# Altium schematic symbol library fszhang.SchLib: 253 symbols (part 2 of 3)
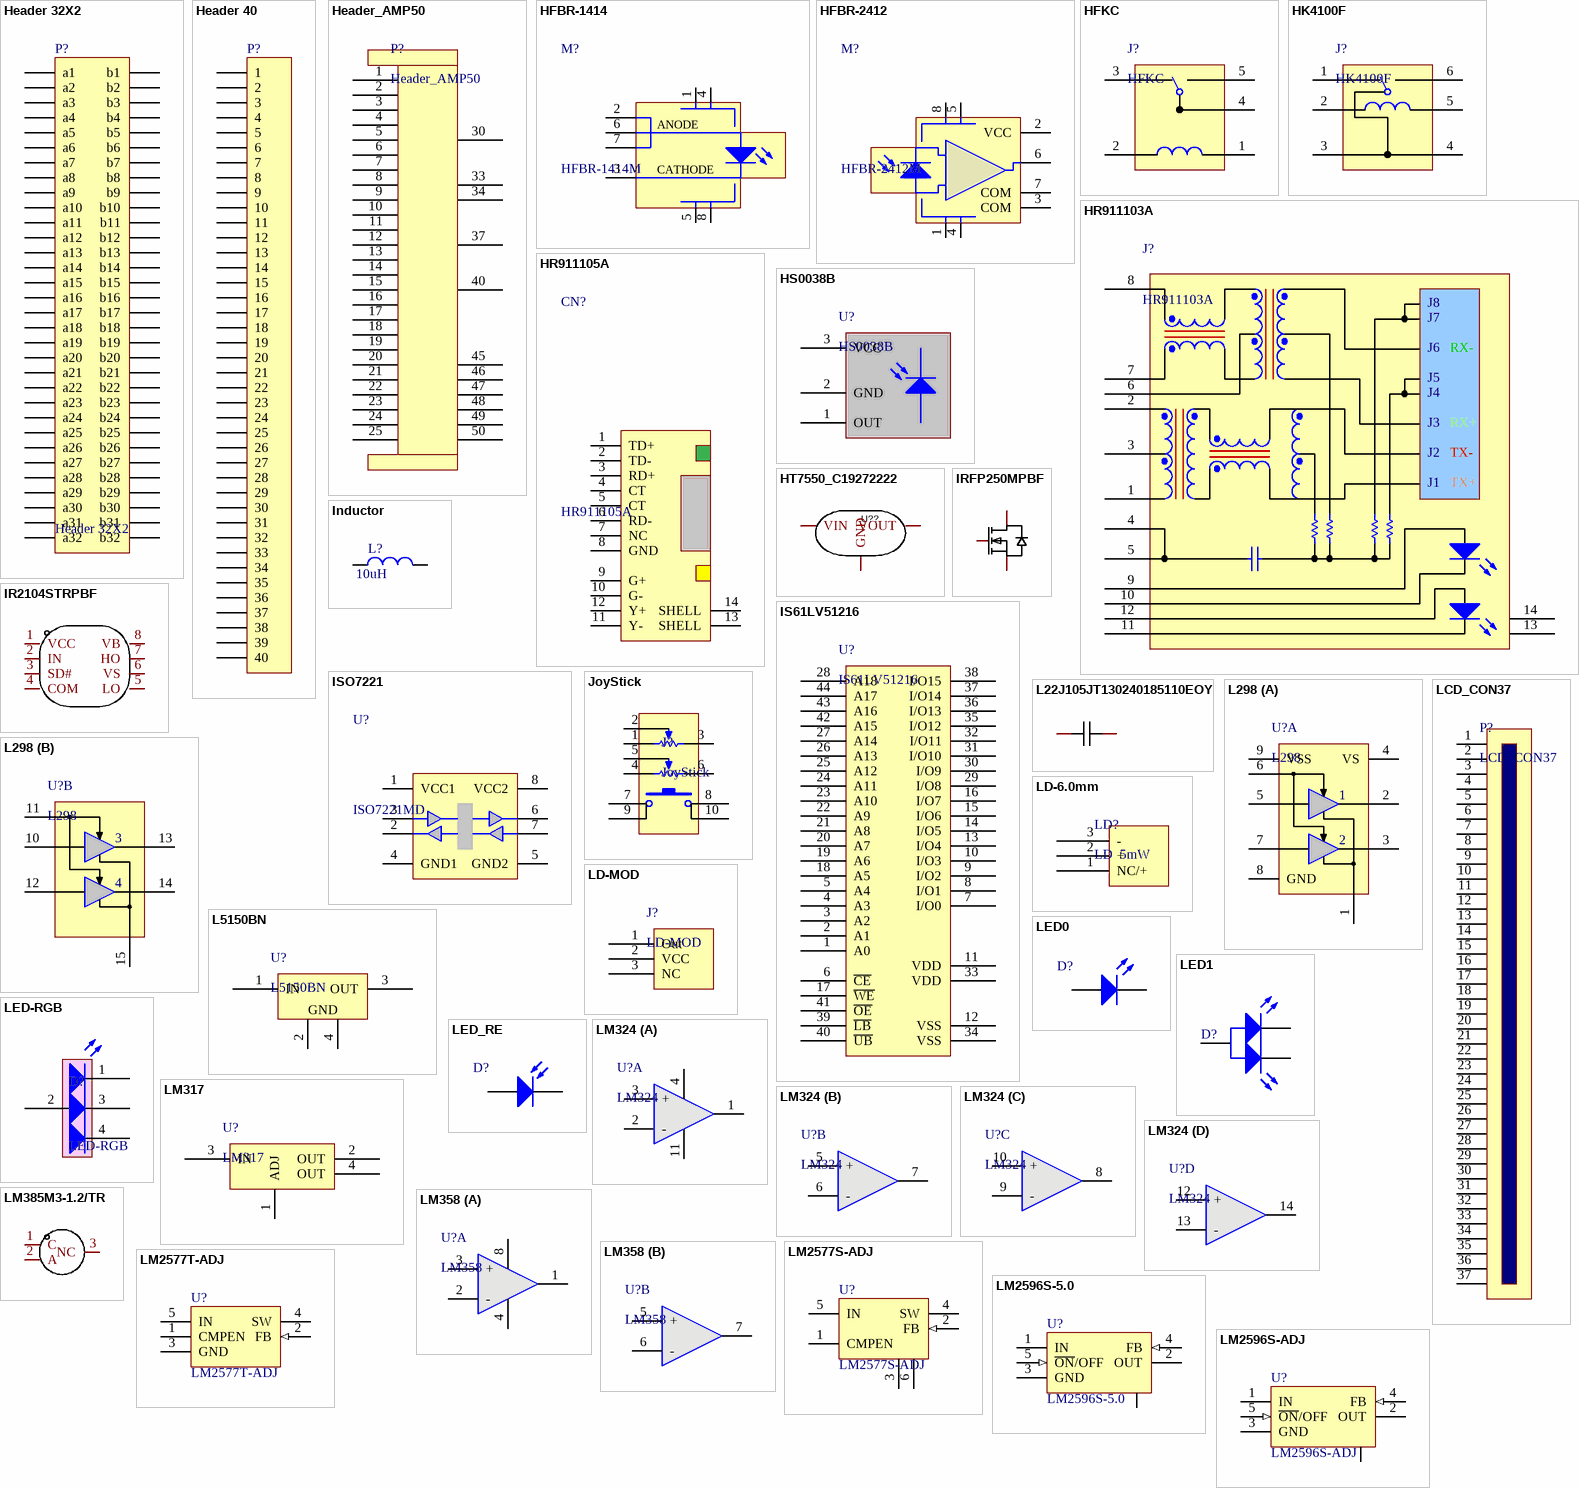
[diagram p14: symbols Header 32X2 to LM2596S-ADJ]

## IR2104STRPBF
designator U??  (value not drawn)
Manufacturer: Infineon(英飞凌); Add into BOM: yes; Name: IR2104STRPBF; Symbol: IR2104STRPBF; Device: IR2104STRPBF; LCSC Part Name: IR2104STRPBF; Supplier Part: C2960; Manufacturer Part: IR2104STRPBF; Supplier Footprint: SOIC-8-150mil; JLCPCB Part Class: Extended Part; Datasheet: https://atta.szlcsc.com/upload/public/pdf/source/20140906/1457707236579.pdf; Supplier: LCSC; Convert to PCB: yes
footprint SOIC-8_L4.9-W3.9-P1.27-LS6.0-BL
3D model SOIC-8_L4.9-W3.9-H1.7-LS6.0-P1.27
pins: 1 VCC, 2 IN, 3 SD#, 4 COM, 5 LO, 6 VS, 7 HO, 8 VB

## IRFP250MPBF
designator Q??  (value not drawn)
Manufacturer: Infineon(英飞凌); Add into BOM: yes; Type: N沟道; Drain Source Voltage (Vdss): 200V; Continuous Drain Current (Id): 30A; Power Dissipation (Pd): 214W; Drain Source On Resistance (RDS(on)@Vgs,Id): 75mΩ@10V,18A; Gate Threshold Voltage (Vgs(th)@Id): 4V@250uA; Name: IRFP250MPBF; Symbol: IRFP250MPBF; Device: IRFP250MPBF; LCSC Part Name: N沟道 200V 30A; Supplier Part: C2676; Manufacturer Part: IRFP250MPBF; Supplier Footprint: TO-247AC-3; JLCPCB Part Class: Extended Part; Datasheet: https://atta.szlcsc.com/upload/public/pdf/source/20140822/1457707234074.pdf; Supplier: LCSC; Convert to PCB: yes
footprint TO-247AC-3_L15.8-W5.0-P5.46-L
3D model TO-247AC-3_L15.8-W5.0-H20.5-P5.46
pins: 1 G, 2 D, 3 S

## IS61LV51216
designator U?
静态RAM
footprint TSOP-44N (TSOP, 44-Leads, Body 18.2x10.0mm (max), Pitch 0.80mm, IPC Medium Density)
pins: 1 A0, 2 A1, 3 A2, 4 A3, 5 A4, 6 ~{CE}, 7 I/O0, 8 I/O1, 9 I/O2, 10 I/O3, 11 VDD, 12 VSS, 13 I/O4, 14 I/O5, 15 I/O6, 16 I/O7, 17 ~{WE}, 18 A5, 19 A6, 20 A7, 21 A8, 22 A9, 23 A10, 24 A11, 25 A12, 26 A13, 27 A14, 28 A18, 29 I/O8, 30 I/O9, 31 I/O10, 32 I/O11, 33 VDD, 34 VSS, 35 I/O12, 36 I/O13, 37 I/O14, 38 I/O15, 39 ~{LB}, 40 ~{UB}, 41 ~{OE}, 42 A15, 43 A16, 44 A17

## ISO7221
designator U?, comment ISO7221MD
隔离芯片
footprint NSO8_N (SOIC-max660)
pins: 1 VCC1, 2 OutA, 3 B, 4 GND1, 5 GND2, 6 OutB, 7 InA, 8 VCC2

## JoyStick
designator J?
模拟摇杆
footprint JoyStick (模拟摇杆)
pins: 1 BOT, 2 TAP, 3 TOP, 4 BOT, 5 TAP, 6 TOP, 7, 8, 9, 10

## L22J105JT130240185110EOY
designator U??  (value not drawn)
电容; Manufacturer: STE(松田); Name: 1uF; Add into BOM: yes; Value: 1uF; Tolerance: ±5%; Voltage Rated: 630V; Dielectric Material: 金属化聚酯; Symbol: L22J105JT130240185110EOY; Device: L22J105JT130240185110EOY; LCSC Part Name: 1uF ±5% 630V; Supplier Part: C2893996; Manufacturer Part: L22J105JT130240185110EOY; Supplier Footprint: 插件,P=22.5mm; JLCPCB Part Class: Extended Part; Datasheet: https://atta.szlcsc.com/upload/public/pdf/source/20210914/9577881C568D4F76FB11E9DE1425BA7C.pdf; Supplier: LCSC; Convert to PCB: yes; Operating Temperature: -40℃~+125℃
footprint CAP-TH_L25.0-W12.5-P22.50-D0.8
3D model CAP-TH_L25.0-W12.5-P22.50-D0.8
pins: 1, 2

## L298
designator U?
ST双电桥
footprint Multiwatt15-V
part A pins: 1 SENSEA, 2 OUT1, 3 OUT2, 4 VS, 5 IN1, 6 ENA, 7 IN2, 8 GND, 9 VSS
part B pins: 10 IN3, 11 ENB, 12 IN4, 13 OUT3, 14 OUT4, 15 SENSEB

## L5150BN
designator U?
5V稳压芯片
footprint SOT-223 (ASM1117 -3.3V)
pins: 1 IN, 2 GND, 3 OUT, 4 GND

## LCD_CON37
designator P?
LCD接口
footprint HDR37X1_F
pins: 1, 2, 3, 4, 5, 6, 7, 8, 9, 10, 11, 12, 13, 14, 15, 16, 17, 18, 19, 20, 21, 22, 23, 24, 25, 26, 27, 28, 29, 30, 31, 32, 33, 34, 35, 36, 37

## LD-6.0mm
designator LD?, comment LD  5mW
5MW激光
footprint LD-6.0 (激光直径6.0mm)
pins: 1 NC/+ (power), 2 + (power), 3 - (power)

## LD-MOD
designator J?
激光调制管
footprint LD-MOD (激光调制管)
pins: 1 Out (power), 2 VCC (power), 3 NC (power)

## LED0
designator D?  (value not drawn)
发光二极管; Published: 8-Jun-2000; LatestRevisionDate: 08-Jul-2005; LatestRevisionNote: Mech Layer 1 removed.; PackageReference: LED-0; Publisher: Altium Limited
footprint LED_A1 (直径3MM发?)
footprint LED_0805 (贴片二?)
footprint LED_A2 (直径3MM?)
footprint LED-3528 (贴片二极管)
pins: 1 A, 2 K

## LED1
designator D?  (value not drawn)
双色LED; Published: 8-Jun-2000; LatestRevisionDate: 08-Jul-2005; LatestRevisionNote: Mech Layer 1 removed.; PackageReference: LED-0; Publisher: Altium Limited
footprint LED_A3 (直径3MM二极管)
pins: 1 K1, 2 A, 3 K2

## LED-RGB
designator D?
三基色LED; Published: 8-Jun-2000; LatestRevisionDate: 08-Jul-2005; LatestRevisionNote: Mech Layer 1 removed.; PackageReference: LED-0; Publisher: Altium Limited
footprint LED-RGB
pins: 1 R, 2 A, 3 G, 4 B

## LED_RE
designator D?, comment LED  (value not drawn)
光敏二极管; Published: 8-Jun-2000; LatestRevisionDate: 08-Jul-2005; LatestRevisionNote: Mech Layer 1 removed.; PackageReference: LED-0; Publisher: Altium Limited
footprint LED_A1 (直径3MM发?)
footprint LED_0805 (贴片二?)
footprint LED_A2 (直径3MM?)
footprint LED-3528 (贴片二极管)
pins: 1 A, 2 K

## LM317
designator U?
稳压芯片
footprint SOT-223 (ASM1117 -3.3V)
pins: 1 ADJ, 2 OUT, 3 IN, 4 OUT

## LM324
designator U?
4运放SOP8芯片
footprint SOP-14N (SOP, 14-Leads,)
part A pins: 1 OUT, 2 -, 3 +, 4 V+, 11 V-
part B pins: 5 +, 6 -, 7 OUT
part C pins: 8 OUT, 9 -, 10 +
part D pins: 12 +, 13 -, 14 OUT

## LM358
designator U?
双运放
footprint NSO8_N (SOIC-max660)
part A pins: 1 OUT1, 2 -, 3 +, 4 V- (power), 8 V+ (power)
part B pins: 5 +, 6 -, 7 OUT2

## LM385M3-1.2/TR
designator U??  (value not drawn)
Manufacturer: HGSEMI(华冠); Add into BOM: yes; Symbol: LM385M3-1.2/TR; Device: LM385M3-1.2/TR; LCSC Part Name: 1.2V 微功耗电压参考; Supplier Part: C507206; Manufacturer Part: LM385M3-1.2/TR; Supplier Footprint: SOT-23-3; JLCPCB Part Class: Extended Part; Datasheet: https://atta.szlcsc.com/upload/public/pdf/source/20200716/C507206_69C34F3D5BBAED8E3BE132CB46276FD0.pdf; Supplier: LCSC; Convert to PCB: yes
3D model SOT-23-3P_L2.9-W1.3-H1.0-LS2.4-P0.95
footprint SOT-23-3_L2.9-W1.3-P1.90-LS2.4-BR
pins: 1 C, 2 A, 3 NC

## LM2577S-ADJ
designator U?
DC升压; Note: Tab is connected to GND; Published: 15-Apr-2002; DatasheetVersion: Jun-1999; PackageVersion: 2000; PackageReference: T05A; Publisher: Altium Limited; PackageDescription: TO, Thru-Hole, Vertical, Heatsink Mounted; 5 In-Line Leads; Pitch 1.70 mm; Code_JEDEC: TS-001-AA; ComponentLink1Description: Manufacturer Link; ComponentLink1URL: http://www.national.com/; ComponentLink2Description: Datasheet; ComponentLink2URL: http://www.national.com/ds.cgi/LM/LM1577.pdf; ComponentLink3Description: URL Link1; ComponentLink3URL: http://www.national.com/pf/LM/LM2577.html
footprint TO-263-5 (贴片LM2596)
pins: 1 CMPEN, 2 FB (in), 3 GND (power), 4 SW (power), 5 IN (power), 6

## LM2577T-ADJ
designator U?
DC升压; Note: Tab is connected to GND; Published: 15-Apr-2002; DatasheetVersion: Jun-1999; PackageVersion: 2000; PackageReference: T05A; Publisher: Altium Limited; PackageDescription: TO, Thru-Hole, Vertical, Heatsink Mounted; 5 In-Line Leads; Pitch 1.70 mm; Code_JEDEC: TS-001-AA; ComponentLink1Description: Manufacturer Link; ComponentLink1URL: http://www.national.com/; ComponentLink2Description: Datasheet; ComponentLink2URL: http://www.national.com/ds.cgi/LM/LM1577.pdf; ComponentLink3Description: URL Link1; ComponentLink3URL: http://www.national.com/pf/LM/LM2577.html
footprint T05A (TO, Thru-Hole, Vertical, Heatsink Mounted; 5 In-Line Leads; Pitch 1.70 mm)
footprint T05D
pins: 1 CMPEN, 2 FB (in), 3 GND (power), 4 SW (power), 5 IN (power)

## LM2596S-5.0
designator U?
5V稳压芯片; Note: Tab is connected to GND; Published: 15-Apr-2002; DatasheetVersion: Dec-1997; PackageReference: TS5B; Publisher: Altium Limited; PackageDescription: D2-PAK; 5 Leads; Body 14.4 (inc. leads) x 10.4 mm (LxW max); ComponentLink1Description: Manufacturer Link; ComponentLink1URL: http://www.national.com/; ComponentLink2Description: Datasheet; ComponentLink2URL: http://www.national.com/ds.cgi/LM/LM2596.pdf; ComponentLink3Description: URL Link1; ComponentLink3URL: http://www.national.com/pf/LM/LM2596.html
footprint TO-263-5 (贴片LM2596)
pins: 1 IN (power), 2 OUT (power), 3 GND (power), 4 FB (in), 5 ~{ON}/OFF (in), 6 (power)

## LM2596S-ADJ
designator U?
可调稳压芯片; Note: Tab is connected to GND; Published: 15-Apr-2002; DatasheetVersion: Dec-1997; PackageReference: TS5B; Publisher: Altium Limited; PackageDescription: D2-PAK; 5 Leads; Body 14.4 (inc. leads) x 10.4 mm (LxW max); ComponentLink1Description: Manufacturer Link; ComponentLink1URL: http://www.national.com/; ComponentLink2Description: Datasheet; ComponentLink2URL: http://www.national.com/ds.cgi/LM/LM2596.pdf; ComponentLink3Description: URL Link1; ComponentLink3URL: http://www.national.com/pf/LM/LM2596.html
footprint TO-263-5 (贴片LM2596)
pins: 1 IN (power), 2 OUT (power), 3 GND (power), 4 FB (in), 5 ~{ON}/OFF (in), 6 (power)

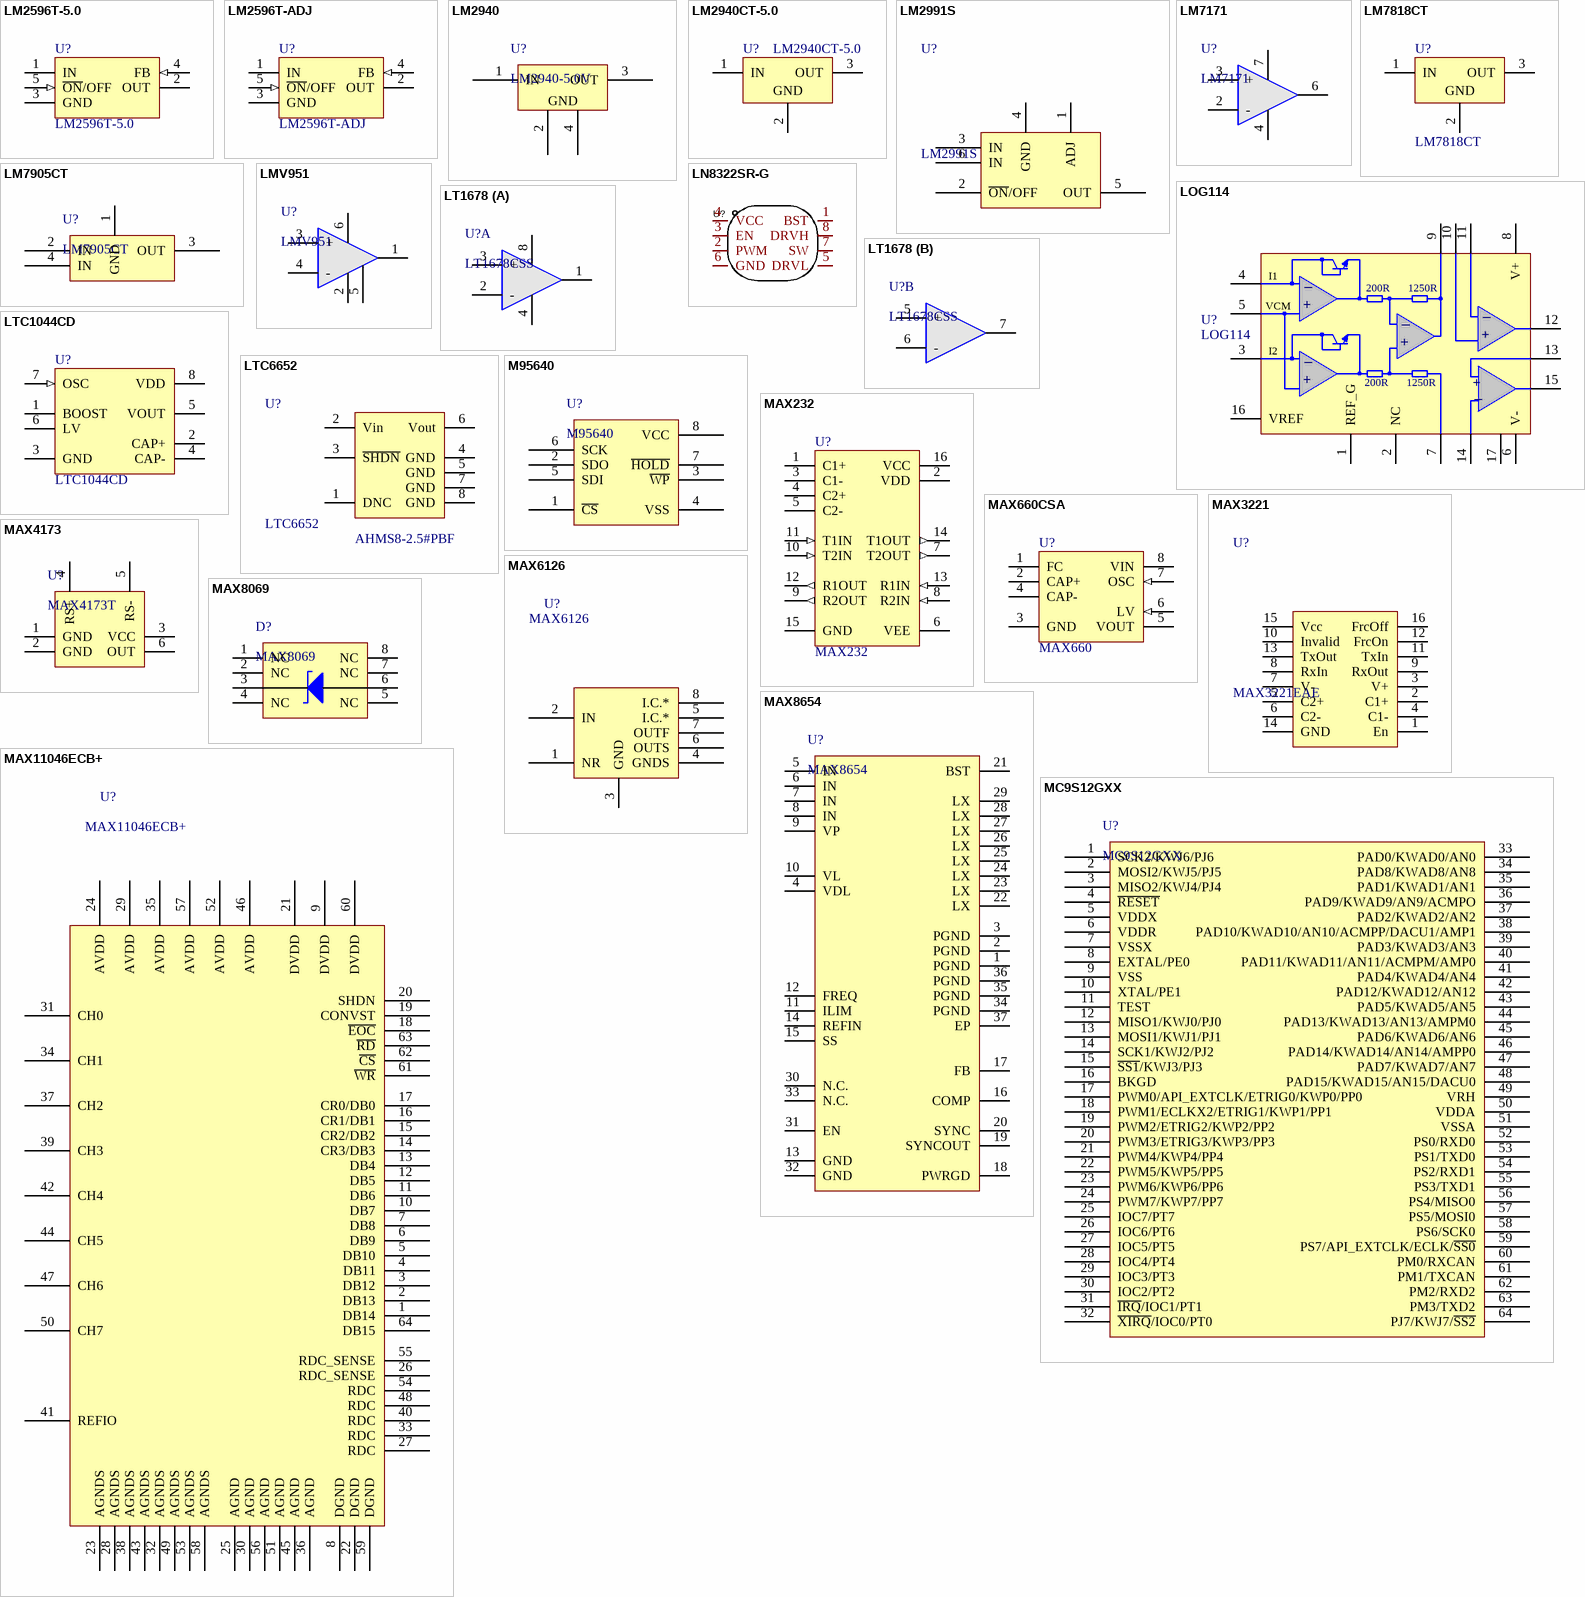
[diagram p5: symbols LM2596T-5.0 to MC9S12GXX]

## LM2596T-5.0
designator U?
5V稳压芯片; Note: Tab is connected to GND; Published: 15-Apr-2002; DatasheetVersion: Dec-1997; PackageReference: TS5B; Publisher: Altium Limited; PackageDescription: D2-PAK; 5 Leads; Body 14.4 (inc. leads) x 10.4 mm (LxW max); ComponentLink1Description: Manufacturer Link; ComponentLink1URL: http://www.national.com/; ComponentLink2Description: Datasheet; ComponentLink2URL: http://www.national.com/ds.cgi/LM/LM2596.pdf; ComponentLink3Description: URL Link1; ComponentLink3URL: http://www.national.com/pf/LM/LM2596.html
footprint T05A (TO, Thru-Hole, Vertical, Heatsink Mounted; 5 In-Line Leads; Pitch 1.70 mm)
footprint T05D
pins: 1 IN (power), 2 OUT (power), 3 GND (power), 4 FB (in), 5 ~{ON}/OFF (in)

## LM2596T-ADJ
designator U?
可调稳压芯片; Note: Tab is connected to GND; Published: 15-Apr-2002; DatasheetVersion: Dec-1997; PackageReference: TS5B; Publisher: Altium Limited; PackageDescription: D2-PAK; 5 Leads; Body 14.4 (inc. leads) x 10.4 mm (LxW max); ComponentLink1Description: Manufacturer Link; ComponentLink1URL: http://www.national.com/; ComponentLink2Description: Datasheet; ComponentLink2URL: http://www.national.com/ds.cgi/LM/LM2596.pdf; ComponentLink3Description: URL Link1; ComponentLink3URL: http://www.national.com/pf/LM/LM2596.html
footprint T05A (TO, Thru-Hole, Vertical, Heatsink Mounted; 5 In-Line Leads; Pitch 1.70 mm)
footprint T05D
pins: 1 IN (power), 2 OUT (power), 3 GND (power), 4 FB (in), 5 ~{ON}/OFF (in)

## LM2940
designator U?, comment LM2940-5.0V
5V稳压芯片
footprint TO-263-3 (LM2940/LM1086)
pins: 1 IN (power), 2 GND (power), 3 OUT (power), 4 GND (power)

## LM2940CT-5.0
designator U?
1A 5V; Note: Tab is connected to GND; Published: 15-Apr-2002; DatasheetVersion: Jun-1999; PackageVersion: 1995; PackageReference: T03B; Publisher: Altium Limited; PackageDescription: TO, Thru-Hole, Vertical, Heatsink Mounted; 3 In-Line Leads; Pitch 2.54 mm; ComponentLink1Description: Manufacturer Link; ComponentLink1URL: http://www.national.com/; ComponentLink2Description: Datasheet; ComponentLink2URL: http://www.national.com/ds.cgi/LM/LM2940.pdf; ComponentLink3Description: URL Link1; ComponentLink3URL: http://www.national.com/pf/LM/LM2940C.html
footprint T03B (TO, Thru-Hole, Vertical, Heatsink Mounted; 3 In-Line Leads; Pitch 2.54 mm)
pins: 1 IN (power), 2 GND (power), 3 OUT (power)

## LM2991S
designator U?
稳压芯片
footprint TO-263-5 (贴片LM2596)
pins: 1 ADJ, 2 ~{ON}/OFF, 3 IN, 4 GND, 5 OUT, 6 IN

## LM7171
designator U?
单运放
footprint NSO8_N (SOIC-max660)
pins: 2 -, 3 +, 4 V- (power), 6 OUT1, 7 V+ (power)

## LM7818CT
designator U?
Series 3-Terminal Positive Regulator; Note: Tab is connected to GND; ComponentAvailability: Obsolete; Published: 15-Apr-2002; DatasheetVersion: May-1999; PackageVersion: 1995; PackageReference: T03B; Publisher: Altium Limited; PackageDescription: TO, Thru-Hole, Vertical, Heatsink Mounted; 3 In-Line Leads; Pitch 2.54 mm; ComponentLink1Description: Manufacturer Link; ComponentLink1URL: http://www.national.com/; ComponentLink2Description: Discontinuation Notice; ComponentLink2URL: http://www.national.com/obs/obsolescence.txt
footprint T03B (TO, Thru-Hole, Vertical, Heatsink Mounted; 3 In-Line Leads; Pitch 2.54 mm)
pins: 1 IN (power), 2 GND (power), 3 OUT (power)

## LM7905CT
designator U?
稳压芯片
footprint SOT-223 (ASM1117 -3.3V)
footprint TO-263-3 (LM2940/LM1086)
pins: 1 GND, 2 IN, 3 OUT, 4 IN

## LMV951
designator U?
超低功耗运放
footprint SOT23-6 (Max4173)
pins: 1 OUT1, 2 V- (power), 3 +, 4 -, 5 S (power), 6 V+ (power)

## LN8322SR-G
designator U?  (value not drawn)
半桥驱动; Manufacturer: natlinear(南麟); Add into BOM: yes; Driven Configuration: 半桥; Number of Drivers: 1; loadtype: MOSFET; Whether the isolation: 非隔离; Supply Voltage: 4.5V~13.2V; Rise Time: 16ns；15ns; Fall Time: 10ns; Propagation Delay tpLH: 30ns；25ns; Propagation Delay tpHL: 13ns；12ns; Name: LN8322SR-G; Symbol: LN8322SR-G; Device: LN8322SR-G; LCSC Part Name: 半桥 MOSFET; Supplier Part: C3008046; Manufacturer Part: LN8322SR-G; Supplier Footprint: SOP-8; JLCPCB Part Class: Extended Part; Datasheet: https://atta.szlcsc.com/upload/public/pdf/source/20220426/6EF480AD15A3630433E6A711445E3688.pdf; Supplier: LCSC; Convert to PCB: yes; Peak Output Current(sink): -; Peak Output Current(source): -; Feature: 欠压保护(UVP); Operating Temperature: -40℃~+150℃@(Tj)
footprint SOP-8_L4.9-W3.9-P1.27-LS6.0-BL-1
3D model SOP-8_L4.9-W3.9-P1.27-LS6.0-BL-1
pins: 1 BST, 2 PWM, 3 EN, 4 VCC, 5 DRVL, 6 GND, 7 SW, 8 DRVH

## LOG114
designator U?
光电检测
footprint QFN-16 (QFN)
pins: 1 REF_G, 2 NC, 3 I2, 4 I1, 5 Vcmin, 6 V-, 7 CON, 8 V+, 9 VlogOUT, 10 +IN4, 11 -IN4, 12 VO4, 13 +IN5, 14 -IN5, 15 VO5, 16 VREF, 17 PAD
text: _; 200R; 1250R; VCM; +

## LT1678
designator U?, comment LT1678CSS
双运放
footprint NSO8_N (SOIC-max660)
part A pins: 1 OUT1, 2 -, 3 +, 4 V- (power), 8 V+ (power)
part B pins: 5 +, 6 -, 7 OUT2

## LTC1044CD
designator U?
Switched-Capacitor Voltage Converter; Published: 15-Apr-2002; LatestRevisionDate: 13-Apr-2006; LatestRevisionNote: IPC-7351 Footprint Added.; DatasheetVersion: Jan-1989; PackageVersion: Jan-1998; PackageReference: D008; Publisher: Altium Limited; PackageDescription: 8-Pin Small Outline Integrated Circuit 1.27 mm Pitch; Code_IPC: SOIC127P600-8; ComponentLink1Description: Manufacturer Link; ComponentLink1URL: http://www.ti.com/
footprint SOIC8_N (8-Pin Small Outline Integrated Circuit Package (SOIC8), IPC Medium Density)
pins: 1 BOOST, 2 CAP+, 3 GND (power), 4 CAP-, 5 VOUT (power), 6 LV, 7 OSC (in), 8 VDD (power)

## LTC6652
designator U?  Type: AHMS8-2.5#PBF
电压基准
footprint MSOP-MS8_M (TSOP, 8-Leads, Body 3x3mm, Pitch 0.65mm, IPC Low Density)
pins: 1 DNC, 2 Vin, 3 ~{SHDN}, 4 GND, 5 GND, 6 Vout, 7 GND, 8 GND
2 alternate drawings of the same symbol

## M95640
designator U?
footprint NSO8_N (SOIC-max660)
pins: 1 ~{CS}, 2 SDO, 3 ~{WP}, 4 VSS, 5 SDI, 6 SCK, 7 ~{HOLD}, 8 VCC

## MAX232
designator U?
+5V Powered, Multi-Channel RS-232 Driver/Receiver; Published: 16-Jan-2001; LatestRevisionDate: 13-Apr-2006; LatestRevisionNote: IPC-7351 Footprint Added.; PackageReference: NSO16; Publisher: Altium Limited; PackageDescription: 16-Pin Small Outline Integrated Circuit 1.27 mm Pitch; Code_JEDEC: MS-012-AC; Code_IPC: SOIC127P600-16; ComponentLink1Description: Manufacturer Link; ComponentLink1URL: http://www.maxim-ic.com/; ComponentLink2Description: Datasheet; ComponentLink2URL: http://pdfserv.maxim-ic.com/en/ds/MAX220-MAX249.pdf
footprint NSO16_M (SOIC, 16-Leads, Body 9.9x3.9mm, Pitch 1.27mm, IPC Low Density)
pins: 1 C1+, 2 VDD (power), 3 C1-, 4 C2+, 5 C2-, 6 VEE (power), 7 T2OUT (out), 8 R2IN (in), 9 R2OUT (out), 10 T2IN (in), 11 T1IN (in), 12 R1OUT (out), 13 R1IN (in), 14 T1OUT (out), 15 GND (power), 16 VCC (power)

## MAX660CSA
designator U?, comment MAX660
-5V电源芯片; Published: 16-Jan-2001; LatestRevisionDate: 13-Apr-2006; LatestRevisionNote: IPC-7351 Footprint Added.; DatasheetVersion: Sep-1996; PackageReference: NSO8; Publisher: Altium Limited; PackageDescription: 8-Pin Small Outline Integrated Circuit 1.27 mm Pitch; Code_JEDEC: MS-012-AA; Code_IPC: SOIC127P600-8; ComponentLink1Description: Manufacturer Link; ComponentLink1URL: http://www.maxim-ic.com/; ComponentLink2Description: Datasheet; ComponentLink2URL: http://pdfserv.maxim-ic.com/en/ds/MAX660.pdf
footprint NSO8_N (SOIC-max660)
pins: 1 FC, 2 CAP+, 3 GND (power), 4 CAP-, 5 VOUT (power), 6 LV (in), 7 OSC (in), 8 VIN (power)

## MAX3221
designator U?, comment MAX3221EAE
串口电平转换
footprint TSSOP16_M (TSOP, 16-Leads, Body 5x4.4mm, Pitch 0.65mm, IPC Low Density)
pins: 1 En, 2 C1+, 3 V+, 4 C1-, 5 C2+, 6 C2-, 7 V-, 8 RxIn, 9 RxOut, 10 Invalid, 11 TxIn, 12 FrcOn, 13 TxOut, 14 GND, 15 Vcc, 16 FrcOff

## MAX4173
designator U?, comment MAX4173T
高端电流检测
footprint SOT23-6 (Max4173)
pins: 1 GND, 2 GND, 3 VCC, 4 RS+, 5 RS-, 6 OUT

## MAX6126
designator U?
电压基准
footprint NSO8_N (SOIC-max660)
pins: 1 NR, 2 IN, 3 GND, 4 GNDS, 5 I.C.*, 6 OUTS, 7 OUTF, 8 I.C.*

## MAX8069
designator D?
1.2V稳压二极管
footprint SOIC8_N (8-Pin Small Outline Integrated Circuit Package (SOIC8), IPC Medium Density)
pins: 1 NC, 2 NC, 3 C, 4 NC, 5 NC, 6 A, 7 NC, 8 NC

## MAX8654
designator U?
footprint VFQN36_V (QFN, 36-Leads, Body 6x6mm, Pitch 0.5mm, ST Recommended)
pins: 1 PGND, 2 PGND, 3 PGND, 4 VDL, 5 IN, 6 IN, 7 IN, 8 IN, 9 VP, 10 VL, 11 ILIM, 12 FREQ, 13 GND, 14 REFIN, 15 SS, 16 COMP, 17 FB, 18 PWRGD, 19 SYNCOUT, 20 SYNC, 21 BST, 22 LX, 23 LX, 24 LX, 25 LX, 26 LX, 27 LX, 28 LX, 29 LX, 30 N.C., 31 EN, 32 GND, 33 N.C., 34 PGND, 35 PGND, 36 PGND, 37 EP

## MAX11046ECB+
designator U?
AD转换
footprint TQFP64_EP
pins: 1 DB14, 2 DB13, 3 DB12, 4 DB11, 5 DB10, 6 DB9, 7 DB8, 8 DGND, 9 DVDD, 10 DB7, 11 DB6, 12 DB5, 13 DB4, 14 CR3/DB3, 15 CR2/DB2, 16 CR1/DB1, 17 CR0/DB0, 18 ~{EOC}, 19 CONVST, 20 SHDN, 21 DVDD, 22 DGND, 23 AGNDS, 24 AVDD, 25 AGND, 26 RDC_SENSE, 27 RDC, 28 AGNDS, 29 AVDD, 30 AGND, 31 CH0, 32 AGNDS, 33 RDC, 34 CH1, 35 AVDD, 36 AGND, 37 CH2, 38 AGNDS, 39 CH3, 40 RDC, 41 REFIO, 42 CH4, 43 AGNDS, 44 CH5, 45 AGND, 46 AVDD, 47 CH6, 48 RDC, 49 AGNDS, 50 CH7, 51 AGND, 52 AVDD, 53 AGNDS, 54 RDC, 55 RDC_SENSE, 56 AGND, 57 AVDD, 58 AGNDS, 59 DGND, 60 DVDD, 61 ~{WR}, 62 ~{CS}, 63 ~{RD}, 64 DB15

## MC9S12GXX
designator U?
飞思卡尔单片机
footprint LQFP-64 (LQFP64)
pins: 1 SCK2/KWJ6/PJ6, 2 MOSI2/KWJ5/PJ5, 3 MISO2/KWJ4/PJ4, 4 ~{RESET}, 5 VDDX, 6 VDDR, 7 VSSX, 8 EXTAL/PE0, 9 VSS, 10 XTAL/PE1, 11 TEST, 12 MISO1/KWJ0/PJ0, 13 MOSI1/KWJ1/PJ1, 14 SCK1/KWJ2/PJ2, 15 ~{SS1}/KWJ3/PJ3, 16 BKGD, 17 PWM0/API_EXTCLK/ETRIG0/KWP0/PP0, 18 PWM1/ECLKX2/ETRIG1/KWP1/PP1, 19 PWM2/ETRIG2/KWP2/PP2, 20 PWM3/ETRIG3/KWP3/PP3, 21 PWM4/KWP4/PP4, 22 PWM5/KWP5/PP5, 23 PWM6/KWP6/PP6, 24 PWM7/KWP7/PP7, 25 IOC7/PT7, 26 IOC6/PT6, 27 IOC5/PT5, 28 IOC4/PT4, 29 IOC3/PT3, 30 IOC2/PT2, 31 ~{IRQ}/IOC1/PT1, 32 ~{XIRQ}/IOC0/PT0, 33 PAD0/KWAD0/AN0, 34 PAD8/KWAD8/AN8, 35 PAD1/KWAD1/AN1, 36 PAD9/KWAD9/AN9/ACMPO, 37 PAD2/KWAD2/AN2, 38 PAD10/KWAD10/AN10/ACMPP/DACU1/AMP1, 39 PAD3/KWAD3/AN3, 40 PAD11/KWAD11/AN11/ACMPM/AMP0, 41 PAD4/KWAD4/AN4, 42 PAD12/KWAD12/AN12, 43 PAD5/KWAD5/AN5, 44 PAD13/KWAD13/AN13/AMPM0, 45 PAD6/KWAD6/AN6, 46 PAD14/KWAD14/AN14/AMPP0, 47 PAD7/KWAD7/AN7, 48 PAD15/KWAD15/AN15/DACU0, 49 VRH, 50 VDDA, 51 VSSA, 52 PS0/RXD0, 53 PS1/TXD0, 54 PS2/RXD1, 55 PS3/TXD1, 56 PS4/MISO0, 57 PS5/MOSI0, 58 PS6/SCK0, 59 PS7/API_EXTCLK/ECLK/~{SS0}, 60 PM0/RXCAN, 61 PM1/TXCAN, 62 PM2/RXD2, 63 PM3/TXD2, 64 PJ7/KWJ7/~{SS2}

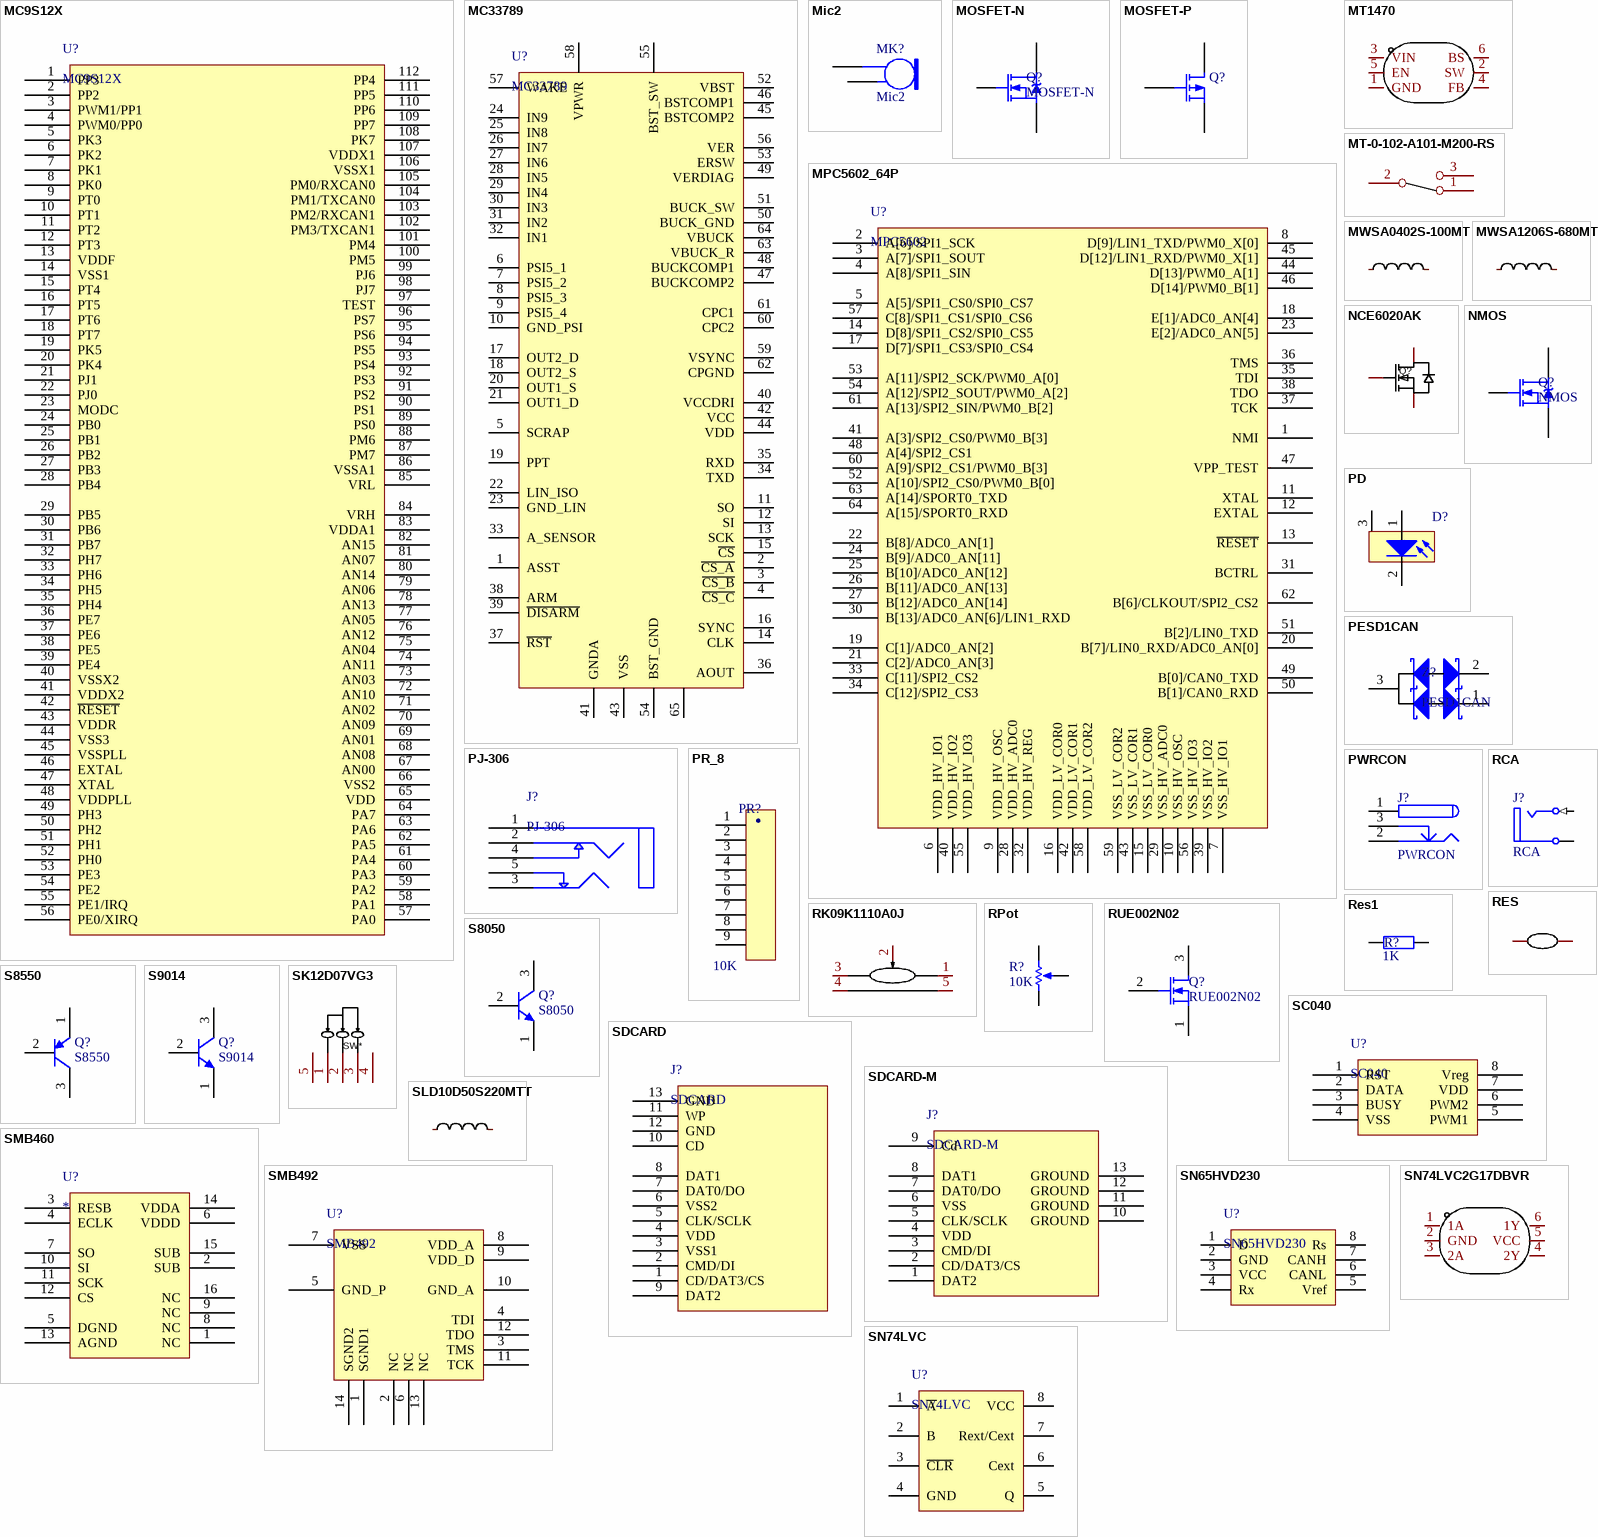
[diagram p6: symbols MC9S12X to SN74LVC2G17DBVR]

## MC9S12X
designator U?
飞思卡尔单片机
footprint LQFP112
pins: 1 PP3, 2 PP2, 3 PWM1/PP1, 4 PWM0/PP0, 5 PK3, 6 PK2, 7 PK1, 8 PK0, 9 PT0, 10 PT1, 11 PT2, 12 PT3, 13 VDDF, 14 VSS1, 15 PT4, 16 PT5, 17 PT6, 18 PT7, 19 PK5, 20 PK4, 21 PJ1, 22 PJ0, 23 MODC, 24 PB0, 25 PB1, 26 PB2, 27 PB3, 28 PB4, 29 PB5, 30 PB6, 31 PB7, 32 PH7, 33 PH6, 34 PH5, 35 PH4, 36 PE7, 37 PE6, 38 PE5, 39 PE4, 40 VSSX2, 41 VDDX2, 42 ~{RESET}, 43 VDDR, 44 VSS3, 45 VSSPLL, 46 EXTAL, 47 XTAL, 48 VDDPLL, 49 PH3, 50 PH2, 51 PH1, 52 PH0, 53 PE3, 54 PE2, 55 PE1/IRQ, 56 PE0/XIRQ, 57 PA0, 58 PA1, 59 PA2, 60 PA3, 61 PA4, 62 PA5, 63 PA6, 64 PA7, 65 VDD, 66 VSS2, 67 AN00, 68 AN08, 69 AN01, 70 AN09, 71 AN02, 72 AN10, 73 AN03, 74 AN11, 75 AN04, 76 AN12, 77 AN05, 78 AN13, 79 AN06, 80 AN14, 81 AN07, 82 AN15, 83 VDDA1, 84 VRH, 85 VRL, 86 VSSA1, 87 PM7, 88 PM6, 89 PS0, 90 PS1, 91 PS2, 92 PS3, 93 PS4, 94 PS5, 95 PS6, 96 PS7, 97 TEST, 98 PJ7, 99 PJ6, 100 PM5, 101 PM4, 102 PM3/TXCAN1, 103 PM2/RXCAN1, 104 PM1/TXCAN0, 105 PM0/RXCAN0, 106 VSSX1, 107 VDDX1, 108 PK7, 109 PP7, 110 PP6, 111 PP5, 112 PP4

## MC33789
designator U?
飞思卡尔传感器
footprint LQFP-64_EP (LQFP64)
pins: 1 ASST, 2 ~{CS_A}, 3 ~{CS_B}, 4 ~{CS_C}, 5 SCRAP, 6 PSI5_1, 7 PSI5_2, 8 PSI5_3, 9 PSI5_4, 10 GND_PSI, 11 SO, 12 SI, 13 SCK, 14 CLK, 15 ~{CS}, 16 SYNC, 17 OUT2_D, 18 OUT2_S, 19 PPT, 20 OUT1_S, 21 OUT1_D, 22 LIN_ISO, 23 GND_LIN, 24 IN9, 25 IN8, 26 IN7, 27 IN6, 28 IN5, 29 IN4, 30 IN3, 31 IN2, 32 IN1, 33 A_SENSOR, 34 TXD, 35 RXD, 36 AOUT, 37 ~{RST}, 38 ARM, 39 ~{DISARM}, 40 VCCDRI, 41 GNDA, 42 VCC, 43 VSS, 44 VDD, 45 BSTCOMP2, 46 BSTCOMP1, 47 BUCKCOMP2, 48 BUCKCOMP1, 49 VERDIAG, 50 BUCK_GND, 51 BUCK_SW, 52 VBST, 53 ERSW, 54 BST_GND, 55 BST_SW, 56 VER, 57 WAKE, 58 VPWR, 59 VSYNC, 60 CPC2, 61 CPC1, 62 CPGND, 63 VBUCK_R, 64 VBUCK, 65

## Mic2
designator MK?
Microphone; Published: 24-Mar-1999; LatestRevisionDate: 17-Jul-2002; LatestRevisionNote: Re-released for DXP Platform.; PackageReference: PIN2; Publisher: Altium Limited
footprint PIN2 (Photosensitive Diode; 2 Leads)
pins: 1, 2

## MOSFET-N
designator Q?
N-Channel MOSFET; PackageDocument: 1995/1996; Published: 8-Jun-2000; LatestRevisionDate: 17-Jul-2002; LatestRevisionNote: Re-released for DXP Platform.; PackageReference: E3; Publisher: Altium Limited
footprint TO-220AB (TO, Thru-Hole, Vertical, Heatsink Mounted; 3 In-Line Leads; Pitch 2.54 mm)
pins: D, G, S

## MOSFET-P
designator Q?  (value not drawn)
P-Channel MOSFET; PackageDocument: 1995/1996; Published: 8-Jun-2000; LatestRevisionDate: 17-Jul-2002; LatestRevisionNote: Re-released for DXP Platform.; PackageReference: E3; Publisher: Altium Limited
footprint TO-220AB (TO, Thru-Hole, Vertical, Heatsink Mounted; 3 In-Line Leads; Pitch 2.54 mm)
pins: D, G, S

## MPC5602_64P
designator U?, comment MPC5602
Freescale PowerPC
footprint LQFP-64 (LQFP64)
pins: 1 NMI, 2 A[6]/SPI1_SCK, 3 A[7]/SPI1_SOUT, 4 A[8]/SPI1_SIN, 5 A[5]/SPI1_CS0/SPI0_CS7, 6 VDD_HV_IO1, 7 VSS_HV_IO1, 8 D[9]/LIN1_TXD/PWM0_X[0], 9 VDD_HV_OSC, 10 VSS_HV_OSC, 11 XTAL, 12 EXTAL, 13 ~{RESET}, 14 D[8]/SPI1_CS2/SPI0_CS5, 15 VSS_LV_COR0, 16 VDD_LV_COR0, 17 D[7]/SPI1_CS3/SPI0_CS4, 18 E[1]/ADC0_AN[4], 19 C[1]/ADC0_AN[2], 20 B[7]/LIN0_RXD/ADC0_AN[0], 21 C[2]/ADC0_AN[3], 22 B[8]/ADC0_AN[1], 23 E[2]/ADC0_AN[5], 24 B[9]/ADC0_AN[11], 25 B[10]/ADC0_AN[12], 26 B[11]/ADC0_AN[13], 27 B[12]/ADC0_AN[14], 28 VDD_HV_ADC0, 29 VSS_HV_ADC0, 30 B[13]/ADC0_AN[6]/LIN1_RXD, 31 BCTRL, 32 VDD_HV_REG, 33 C[11]/SPI2_CS2, 34 C[12]/SPI2_CS3, 35 TDI, 36 TMS, 37 TCK, 38 TDO, 39 VSS_HV_IO2, 40 VDD_HV_IO2, 41 A[3]/SPI2_CS0/PWM0_B[3], 42 VDD_LV_COR1, 43 VSS_LV_COR1, 44 D[13]/PWM0_A[1], 45 D[12]/LIN1_RXD/PWM0_X[1], 46 D[14]/PWM0_B[1], 47 VPP_TEST, 48 A[4]/SPI2_CS1, 49 B[0]/CAN0_TXD, 50 B[1]/CAN0_RXD, 51 B[2]/LIN0_TXD, 52 A[10]/SPI2_CS0/PWM0_B[0], 53 A[11]/SPI2_SCK/PWM0_A[0], 54 A[12]/SPI2_SOUT/PWM0_A[2], 55 VDD_HV_IO3, 56 VSS_HV_IO3, 57 C[8]/SPI1_CS1/SPI0_CS6, 58 VDD_LV_COR2, 59 VSS_LV_COR2, 60 A[9]/SPI2_CS1/PWM0_B[3], 61 A[13]/SPI2_SIN/PWM0_B[2], 62 B[6]/CLKOUT/SPI2_CS2, 63 A[14]/SPORT0_TXD, 64 A[15]/SPORT0_RXD

## MT1470
designator U??  (value not drawn)
Manufacturer: 西安航天民芯; Add into BOM: yes; Function: 降压型; Name: MT1470; Symbol: MT1470; Device: MT1470; LCSC Part Name: 降压型; Supplier Part: C181781; Manufacturer Part: MT1470; Supplier Footprint: SOT-23-6; JLCPCB Part Class: Extended Part; Datasheet: https://atta.szlcsc.com/upload/public/pdf/source/20210917/0B5B51B60596D99E36E81A9EF9D9BC0F.pdf; Supplier: LCSC; Convert to PCB: yes; Synchronous Rectification: -; Number of Outputs: -; Topology: -; Input Voltage: -; Output Current (Max): -; Switching Frequency: -
footprint SOT-23-6_L2.9-W1.6-P0.95-LS2.8-BL
3D model SOT-23-6_L2.9-W1.6-H1.5-LS2.8-P0.95
pins: 1 GND, 2 SW, 3 VIN, 4 FB, 5 EN, 6 BS

## MT-0-102-A101-M200-RS
designator SW?  (value not drawn)
开关; Manufacturer: YUEN FUNG(源丰); Symbol: MT-0-102-A101-M200-RS+PJ; Add into BOM: yes; Contact Current: 5A; Voltage Rating (AC): 125V; Circuit: 单刀双掷; Actuator Type: 圆柱钮柄; Pin Style: 焊片; Switch Length: 13mm; Switch Width: 8mm; Switch Height: 28.6mm; Name: MT-0-102-A101-M200-RS; Device: MT-0-102-A101-M200-RS; LCSC Part Name: 小型钮子三脚二档 五件套; Supplier Part: C1788492; Manufacturer Part: MT-0-102-A101-M200-RS; Supplier Footprint: 插件; JLCPCB Part Class: Extended Part; Datasheet: https://atta.szlcsc.com/upload/public/pdf/source/20230720/8E5C36EFDF374AE4FF4AC09DB233CE0E.pdf; Supplier: LCSC; Convert to PCB: yes; Mechanical Life: -; Mounting Style: 直插; Operating Temperature: -25℃~+85℃
footprint SW-TH_MT-0-103-A101-M200-RS
3D model SW-TH_MT-0-103-A101-M200-RS
pins: 1, 2, 3

## MWSA0402S-100MT
designator L??  (value not drawn)
电感; Manufacturer: Sunlord(顺络); Name: 10uH; Add into BOM: yes; Value: 10uH; Tolerance: ±20%; Rated Current: 1.6A; Saturation Current (Isat): 2A; DC Resistance (DCR): 282mΩ; Symbol: MWSA0402S-100MT; Device: MWSA0402S-100MT; LCSC Part Name: 10uH ±20% 2A; Supplier Part: C408339; Manufacturer Part: MWSA0402S-100MT; Supplier Footprint: SMD; JLCPCB Part Class: Extended Part; Datasheet: https://atta.szlcsc.com/upload/public/pdf/source/20190729/C408339_3BC98729F1BEEFAE5AEBBEB66576AB79.pdf; Supplier: LCSC; Convert to PCB: yes; Type: -; Ratings: -
footprint IND-SMD_L4.4-W4.2
3D model IND-SMD_L4.2-W4.4-H2.0
pins: 1, 2

## MWSA1206S-680MT
designator L?  (value not drawn)
电感; Manufacturer: Sunlord(顺络); Name: 68uH; Add into BOM: yes; Value: 68uH; Tolerance: ±20%; Rated Current: 4A; Saturation Current (Isat): 4.5A; DC Resistance (DCR): 140mΩ; Symbol: MWSA1206S-680MT; Device: MWSA1206S-680MT; LCSC Part Name: 68uH ±20% 4.5A; Supplier Part: C408532; Manufacturer Part: MWSA1206S-680MT; Supplier Footprint: SMD; JLCPCB Part Class: Extended Part; Datasheet: https://atta.szlcsc.com/upload/public/pdf/source/20191101/C408532_A45307E0A210F26CBD811CB55D250A3E.pdf; Supplier: LCSC; Convert to PCB: yes; Type: -; Ratings: -
footprint IND-SMD_L13.45-W12.6
3D model IND-SMD_L13.45-W12.6-H4.8
pins: 1, 2

## NCE6020AK
designator Q?  (value not drawn)
NMOS; Manufacturer: NCE(无锡新洁能); Add into BOM: yes; Type: N沟道; Drain Source Voltage (Vdss): 60V; Continuous Drain Current (Id): 20A; Power Dissipation (Pd): 45W; Drain Source On Resistance (RDS(on)@Vgs,Id): 35mΩ@10V,20A; Gate Threshold Voltage (Vgs(th)@Id): 2.5V@250uA; Name: NCE6020AK; Symbol: NCE6020AK; Device: NCE6020AK; LCSC Part Name: N沟道 60V 20A; Supplier Part: C108639; Manufacturer Part: NCE6020AK; Supplier Footprint: TO-252-2(DPAK); JLCPCB Part Class: Extended Part; Datasheet: https://atta.szlcsc.com/upload/public/pdf/source/20170508/1494211006052.pdf; Supplier: LCSC; Convert to PCB: yes
footprint TO-252-2_L6.6-W6.1-P4.57-LS10.1-TL-CW
3D model TO-252-2_L6.6-W6.1-P4.57-LS10.1-TL-CW
pins: 1 G, 2 D, 3 S

## NMOS
designator Q?
N-Channel MOSFET; PackageDocument: 1995/1996; Published: 8-Jun-2000; LatestRevisionDate: 17-Jul-2002; LatestRevisionNote: Re-released for DXP Platform.; PackageReference: E3; Publisher: Altium Limited
footprint TO-252
pins: 1 G, 2 D, 3 S

## PD
designator D?  (value not drawn)
光电二极管; Published: 24-Mar-1999; LatestRevisionDate: 17-Jul-2002; LatestRevisionNote: Re-released for DXP Platform.; Publisher: Altium Limited; PackageReference: PD
footprint PD
pins: 1 A, 2 K, 3 0

## PESD1CAN
designator Z?
过压保护
footprint SOT-23 (普通?)
pins: 1, 2, 3

## PJ-306
designator J?
立体声耳机插座
footprint PJ-315-B (立体声耳机插座)
footprint PJ-306 (立体声耳机插座)
pins: 1 COM, 2 L, 3 R, 4 L1, 5 R1

## PR_8
designator PR?, comment value 10K  (hidden comment: RES8-SIP9)
8排直播排电阻
footprint HDR9X1_A (2.54mm)
pins: 1 (power), 2 (power), 3 (power), 4 (power), 5 (power), 6 (power), 7 (power), 8 (power), 9 (power)
text: .

## PWRCON
designator J?
直流电源端子; Published: 17-Dec-2003; DatasheetDocument: 09-May-2002; Publisher: Altium Limited; ComponentLink1Description: Manufacturer Link; ComponentLink1URL: http://domino.kycon.com/internet/Products.html
footprint DC-005 (DC母座5.5mm)
footprint DC-002 (DC母座3.5mm)
pins: 1 (power), 2 (power), 3 (power)

## RCA
designator J?
RCA Phono Jack; PCB_Layout: Complies with manufacturer's recommendation.; DrillAndSlotSize: Corresponds to nominal value.; Published: 15-Jul-2004; LatestRevisionDate: 15-Jul-2004; LatestRevisionNote: Component Replaced.; DatasheetDocument: 7-Jul-2000; PackageDocument: 7-Jul-2000; PackageReference: 161; Publisher: Altium Limited; ComponentLink1Description: Manufacturer Link; ComponentLink1URL: http://www.mouser.com/kobiconn/
footprint RCA/4.5-H2 (Two Conductor Jack (RCA))
footprint RCJ-04X (Two Conductor Jack (RCA))
pins: 1A Ground (power) "Outer Shield (Sleeve)", 2B Signal (in) "Center Pin (Plug Tip)"

## RES
designator R?, comment MF3WS-100KΩ±1%T  (value not drawn)
3W电阻; Manufacturer: 华星机电; Name: 100kΩ; Add into BOM: yes; Value: 100kΩ; Tolerance: ±1%; Power(Watts): 3W; Temperature Coefficient: ±200ppm/℃; Symbol: MF3WS-100KΩ±1%T; Device: MF3WS-100KΩ±1%T; LCSC Part Name: 金属膜电阻 100kΩ ±1% 3W; Supplier Part: C714194; Manufacturer Part: MF3WS-100KΩ±1%T; Supplier Footprint: 插件; JLCPCB Part Class: Extended Part; Datasheet: https://atta.szlcsc.com/upload/public/pdf/source/20200731/C713882_AE8EB1102749D7E4FB4FB13DC898C429.pdf; Supplier: LCSC; Convert to PCB: yes; Type: 金属膜电阻
footprint RES-TH_BD5.0-L15.5-P19.50-D0.7
3D model RES-TH_BD5.0-L15.5-P19.50
pins: 1, 2

## Res1
designator R?, comment 1K
贴片电阻; Published: 8-Jun-2000; LatestRevisionDate: 17-Jul-2002; LatestRevisionNote: Re-released for DXP Platform.; PackageReference: AXIAL-0.4; Publisher: Altium Limited; Value: 1K
footprint 0805-1 (贴片带丝印)
footprint 0805-2 (贴片无丝印)
footprint 0603-1 (贴片带丝印)
footprint 1210 (贴片元件)
footprint AXIAL-0.8 (Semiconductor Resistor; 2 Leads)
footprint 2010 (贴片电阻)
footprint 0603-2 (贴片无丝印)
footprint 1206
footprint 2512 (保险丝)
footprint 1812 (保险丝)
footprint AXIAL-0.9 (插件电阻)
pins: 1, 2

## RK09K1110A0J
designator R?, comment 10kΩ  (value not drawn)
可调电阻; Manufacturer: ALPSALPINE(阿尔卑斯阿尔派); Symbol: RK09K1110A0J; Add into BOM: yes; Tolerance: ±20%; Name: 10kΩ; Device: RK09K1110A0J; LCSC Part Name: 10kΩ ±20%; Supplier Part: C209767; Manufacturer Part: RK09K1110A0J; Supplier Footprint: 插件; JLCPCB Part Class: Extended Part; Datasheet: https://atta.szlcsc.com/upload/public/pdf/source/20180404/C209767_216C97C6138241E636F96A087E6ADB69.pdf; Supplier: LCSC; Convert to PCB: yes; Value: 10kΩ
footprint RES-TH_RK09K1110A0J
3D model RES-TH_RK09K1110A0J
pins: 1, 2, 3, 4 EH, 5 EH

## RPot
designator R?, comment 10K
精密可调电阻; Sim Note: Enter the Resistance value and the set point into parameter fields.; Set Position: 0.5; Published: 8-Jun-2000; LatestRevisionDate: 17-Jul-2002; LatestRevisionNote: Re-released for DXP Platform.; PackageReference: VR5; Publisher: Altium Limited; Value: 10K
footprint VR_A1 (Potentiometer; 3 Leads)
footprint VR_A2
footprint VR_B1 (Potentiometer; 3 Leads)
pins: 1 TOP, 2 TAP, 3 BOT
1 alternate drawing of the same symbol

## RUE002N02
designator Q?
低功耗MOSFET; Published: 8-Jun-2000; LatestRevisionDate: 17-Jul-2002; LatestRevisionNote: Re-released for DXP Platform.; PackageVersion: 1995/1996; PackageReference: E3; Publisher: Altium Limited
footprint SOT-416
pins: 1 S, 2 G, 3 D

## S8050
designator Q?
NPN三极管; Published: 8-Jun-2000; LatestRevisionDate: 15-Jan-2003; LatestRevisionNote: PCB Footprint 'BCY-W3/D4.7' replaced; DatasheetDocument: 1997; PackageDocument: Sep-1998; PackageReference: TO-92A; Publisher: Altium Limited; Code_JEDEC: TO-92A; ComponentLink1Description: Manufacturer Link; ComponentLink1URL: http://www.fairchildsemi.com/; ComponentLink2Description: Datasheet; ComponentLink2URL: http://www.fairchildsemi.com/ds/2N%2F2N3904.pdf
footprint TO-92A (TO, Flat Index; 3 In-Line, Axial Leads; Body Dia. 4.5mm; Leads 0.51 x 0.48 mm (max))
pins: 1 E, 2 B, 3 C

## S8550
designator Q?
PNP三极管; Published: 8-Jun-2000; LatestRevisionDate: 15-Jan-2003; LatestRevisionNote: PCB Footprint 'BCY-W3/D4.7' replaced; DatasheetDocument: 1997; PackageDocument: Sep-1998; PackageReference: TO-92A; Publisher: Altium Limited; Code_JEDEC: TO-92A; ComponentLink1Description: Manufacturer Link; ComponentLink1URL: http://www.fairchildsemi.com/; ComponentLink2Description: Datasheet; ComponentLink2URL: http://www.fairchildsemi.com/ds/2N%2F2N3906.pdf
footprint TO-92A (TO, Flat Index; 3 In-Line, Axial Leads; Body Dia. 4.5mm; Leads 0.51 x 0.48 mm (max))
pins: 1 E, 2 B, 3 C

## S9014
designator Q?
NPN三极管; Published: 8-Jun-2000; LatestRevisionDate: 15-Jan-2003; LatestRevisionNote: PCB Footprint 'BCY-W3/D4.7' replaced; DatasheetDocument: 1997; PackageDocument: Sep-1998; PackageReference: TO-92A; Publisher: Altium Limited; Code_JEDEC: TO-92A; ComponentLink1Description: Manufacturer Link; ComponentLink1URL: http://www.fairchildsemi.com/; ComponentLink2Description: Datasheet; ComponentLink2URL: http://www.fairchildsemi.com/ds/2N%2F2N3904.pdf
footprint TO-92A (TO, Flat Index; 3 In-Line, Axial Leads; Body Dia. 4.5mm; Leads 0.51 x 0.48 mm (max))
pins: 1 E, 2 B, 3 C

## SC040
designator U?
语音
footprint NSO8_N (SOIC-max660)
pins: 1 RST, 2 DATA, 3 BUSY, 4 VSS, 5 PWM1, 6 PWM2, 7 VDD, 8 Vreg

## SDCARD
designator J?
SD卡自弹
footprint SDCARD_B (SD卡自弹)
pins: 1 CD/DAT3/CS, 2 CMD/DI, 3 VSS1, 4 VDD, 5 CLK/SCLK, 6 VSS2, 7 DAT0/DO, 8 DAT1, 9 DAT2, 10 CD, 11 WP, 12 GND, 13 GND

## SDCARD-M
designator J?
TF卡槽
footprint SDCARD-M (TF卡)
pins: 1 DAT2, 2 CD/DAT3/CS, 3 CMD/DI, 4 VDD, 5 CLK/SCLK, 6 VSS, 7 DAT0/DO, 8 DAT1, 9 Cd, 10 GROUND, 11 GROUND, 12 GROUND, 13 GROUND

## SK12D07VG3
designator SW*  (value not drawn)
拨动开关; Manufacturer: SHOU HAN(首韩); Symbol: SK12D07VG3_C431547; Add into BOM: yes; Name: SK12D07VG3; Device: SK12D07VG3; LCSC Part Name: 两档位卧式拨动开关,柄长3MM; Supplier Part: C431547; Manufacturer Part: SK12D07VG3; Supplier Footprint: 插件; JLCPCB Part Class: Extended Part; Datasheet: https://atta.szlcsc.com/upload/public/pdf/source/20190925/C431547_01B93C6F3FA5C09E15F8CCBF4E6DB91A.pdf; Supplier: LCSC; Convert to PCB: yes
footprint SW-TH_SK12D07VG3
3D model SW-TH_SK12D07VG3
pins: 1, 2, 3, 4, 5

## SLD10D50S220MTT
designator L*  (value not drawn)
电感22uH; Manufacturer: Sunltech(韩国顺磁); Name: 22uH; Add into BOM: yes; Rated Current: 2.9A; Tolerance: ±20%; DC Resistance (DCR): 61mΩ; Value: 22uH; Symbol: SLD10D50S220MTT; Device: SLD10D50S220MTT; LCSC Part Name: 22uH ±20% 2.9A; Supplier Part: C216169; Manufacturer Part: SLD10D50S220MTT; Supplier Footprint: SMD; JLCPCB Part Class: Extended Part; Datasheet: https://atta.szlcsc.com/upload/public/pdf/source/20180508/C216169_61A20B30C410307F9535E73DC6650070.pdf; Supplier: LCSC; Convert to PCB: yes; Height: 5mm; Length: 10.5mm; Width: 10.3mm
footprint IND-SMD_L10.5-W10.3_SLD10D50
3D model IND-SMD_L10.5-W10.3-H5.0_SLD10D50
pins: 1, 2

## SMB460
designator U?
SMB460
footprint SOIC127P1050X265-16N (SOIC SMB460)
pins: 1 NC, 2 SUB, 3 RESB, 4 ECLK, 5 DGND, 6 VDDD, 7 SO, 8 NC, 9 NC, 10 SI, 11 SCK, 12 CS, 13 AGND, 14 VDDA, 15 SUB, 16 NC

## SMB492
designator U?
外围加速度传感器
footprint SOP-14N (SOP, 14-Leads,)
pins: 1 SGND1, 2 NC, 3 TMS, 4 TDI, 5 GND_P, 6 NC, 7 VSS, 8 VDD_A, 9 VDD_D, 10 GND_A, 11 TCK, 12 TDO, 13 NC, 14 SGND2

## SN65HVD230
designator U?
CAN芯片
footprint NSO8_N (SOIC-max660)
pins: 1 D, 2 GND, 3 VCC, 4 Rx, 5 Vref, 6 CANL, 7 CANH, 8 Rs

## SN74LVC
designator U?
footprint PDSO-G8 (U)
pins: 1 ~{A}, 2 B, 3 ~{CLR}, 4 GND, 5 Q, 6 Cext, 7 Rext/Cext, 8 VCC

## SN74LVC2G17DBVR
designator U?  (value not drawn)
缓冲器; Manufacturer: TI(德州仪器); Add into BOM: yes; Logic Family: 74LVC; Number of Elements: 2; Number of Bits per Element: 1; Supply Voltage: 1.65V~5.5V; Input type: 施密特触发器; output type: 推挽; Sink Current: 32mA; Name: SN74LVC2G17DBVR; Symbol: SN74LVC2G17DBVR; Device: SN74LVC2G17DBVR; LCSC Part Name: SN74LVC2G17DBVR; Supplier Part: C10429; Manufacturer Part: SN74LVC2G17DBVR; Supplier Footprint: SOT-23-6; JLCPCB Part Class: Extended Part; Datasheet: https://www.ti.com/cn/lit/gpn/sn74lvc2g17; Supplier: LCSC; Convert to PCB: yes; Channel Type: -; Source Current: 32mA; Operating Temperature: -40℃~+125℃
footprint SOT-23-6_L2.9-W1.6-P0.95-LS2.8-BL
3D model SOT-23-6_L2.9-W1.6-H1.5-LS2.8-P0.95
pins: 1 1A, 2 GND, 3 2A, 4 2Y, 5 VCC, 6 1Y

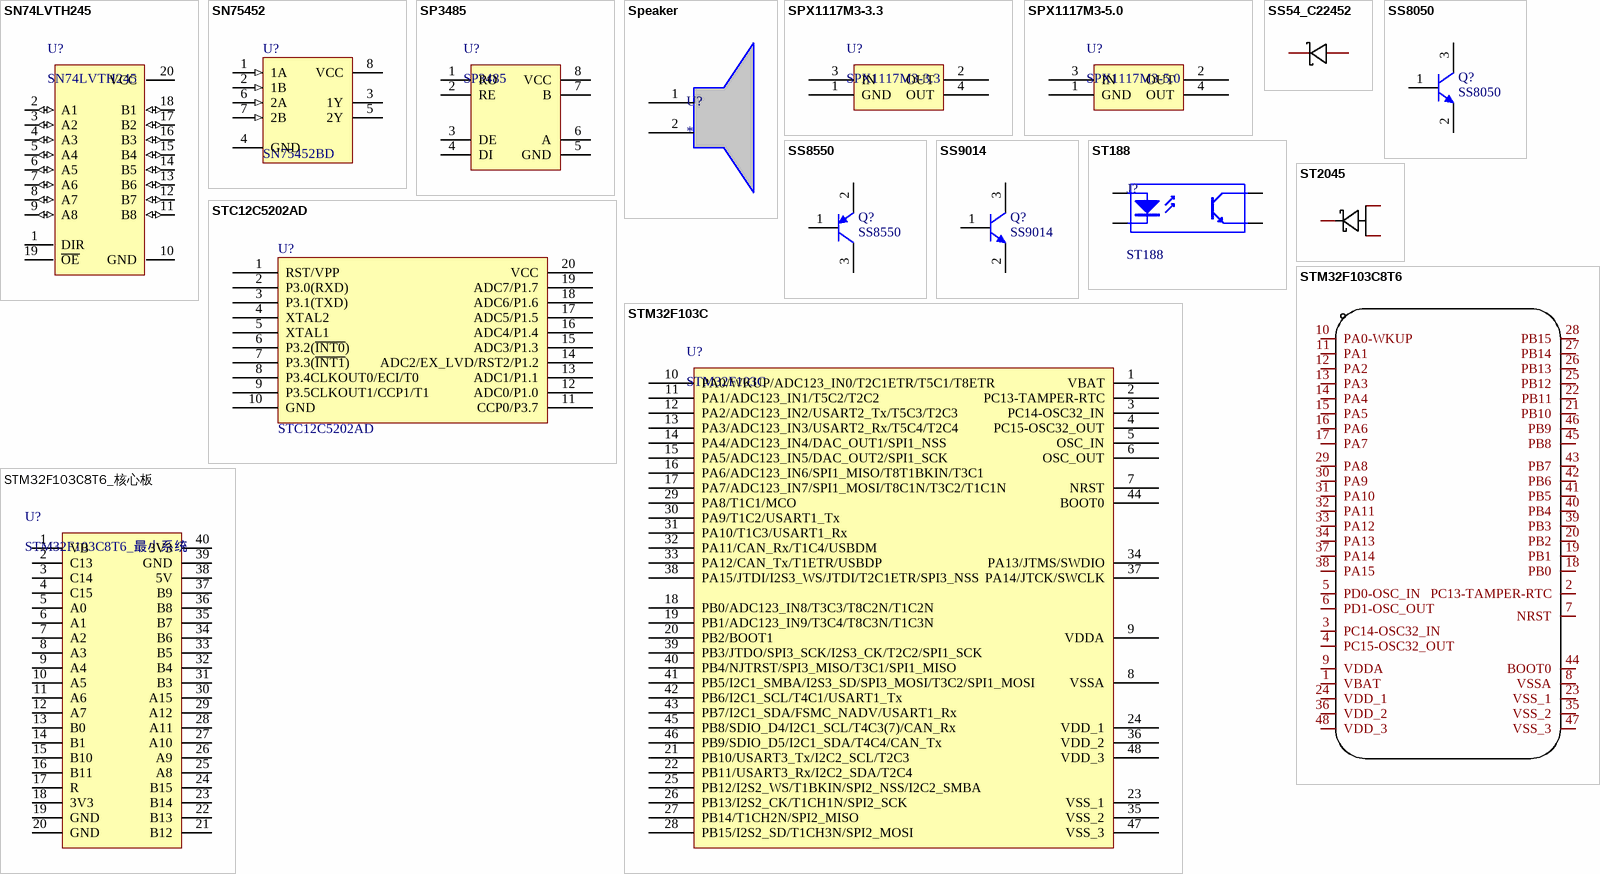
[diagram p7: symbols SN74LVTH245 to STM32F103C8T6_核心板]

## SN74LVTH245
designator U?
双向数据传输
footprint TSSOP20 (Shrink Small Outline; 20 Leads; Body Width 4.4 mm; Pitch 0.65 mm)
pins: 1 DIR, 2 A1 (io), 3 A2 (io), 4 A3 (io), 5 A4 (io), 6 A5 (io), 7 A6 (io), 8 A7 (io), 9 A8 (io), 10 GND, 11 B8 (io), 12 B7 (io), 13 B6 (io), 14 B5 (io), 15 B4 (io), 16 B3 (io), 17 B2 (io), 18 B1 (io), 19 ~{OE}, 20 VCC (power)

## SN75452
designator U?, comment SN75452BD
Dual Peripheral Driver; Package Information: Latest Revision: Jan-1998; Published: 15-May-2002; Datasheet: 1991 Interface Circuits Data Book (May-1990); Package Reference: D008; Publisher: Altium Limited
footprint NSO8_N (SOIC-max660)
pins: 1 1A (in), 2 1B (in), 3 1Y (oc), 4 GND (power), 5 2Y (oc), 6 2A (in), 7 2B (in), 8 VCC (power)

## SP3485
designator U?
485总线芯片
footprint NSO8_N (SOIC-max660)
pins: 1 RO, 2 RE, 3 DE, 4 DI, 5 GND, 6 A, 7 B, 8 VCC

## Speaker
designator U?
Speaker
pins: 1 0, 2 1

## SPX1117M3-3.3
designator U?
3.3V稳压芯片
footprint SOT-223 (ASM1117 -3.3V)
pins: 1 GND, 2 OUT, 3 IN, 4 OUT

## SPX1117M3-5.0
designator U?
5.0V稳压芯片
footprint SOT-223 (ASM1117 -3.3V)
pins: 1 GND, 2 OUT, 3 IN, 4 OUT

## SS54_C22452
designator D?  (value not drawn)
肖特基二极管; Manufacturer: MDD; Name: SS54; Add into BOM: yes; Reverse Voltage (Vr): 40V; Average Rectified Current (Io): 5A; Forward Voltage (Vf@If): 550mV@5A; Symbol: SS54_C22452; Device: SS54_C22452; LCSC Part Name: 40V 5A 550mV@5A; Supplier Part: C22452; Manufacturer Part: SS54; Supplier Footprint: SMA(DO-214AC); JLCPCB Part Class: Basic Part; Datasheet: https://atta.szlcsc.com/upload/public/pdf/source/20230314/529CD85F9B31F69841D3A079BC07E377.pdf; Supplier: LCSC; Convert to PCB: yes
footprint SMA_L4.4-W2.8-LS5.4-R-RD
3D model SMA_L4.4-W2.8-LS5.4-R-RD
pins: 1 A, 2 K

## SS8050
designator Q?
NPN贴片三极管; Published: 8-Jun-2000; LatestRevisionDate: 15-Jan-2003; LatestRevisionNote: PCB Footprint 'BCY-W3/D4.7' replaced; DatasheetDocument: 1997; PackageDocument: Sep-1998; PackageReference: TO-92A; Publisher: Altium Limited; Code_JEDEC: TO-92A; ComponentLink1Description: Manufacturer Link; ComponentLink1URL: http://www.fairchildsemi.com/; ComponentLink2Description: Datasheet; ComponentLink2URL: http://www.fairchildsemi.com/ds/2N%2F2N3904.pdf
footprint SOT-23
pins: 1 B, 2 E, 3 C

## SS8550
designator Q?
PNP贴片三极管; Published: 8-Jun-2000; LatestRevisionDate: 15-Jan-2003; LatestRevisionNote: PCB Footprint 'BCY-W3/D4.7' replaced; DatasheetDocument: 1997; PackageDocument: Sep-1998; PackageReference: TO-92A; Publisher: Altium Limited; Code_JEDEC: TO-92A; ComponentLink1Description: Manufacturer Link; ComponentLink1URL: http://www.fairchildsemi.com/; ComponentLink2Description: Datasheet; ComponentLink2URL: http://www.fairchildsemi.com/ds/2N%2F2N3906.pdf
footprint SOT-23 (普通贴片三极管)
pins: 1 B, 2 E, 3 C

## SS9014
designator Q?
NPN贴片三极管; Published: 8-Jun-2000; LatestRevisionDate: 15-Jan-2003; LatestRevisionNote: PCB Footprint 'BCY-W3/D4.7' replaced; DatasheetDocument: 1997; PackageDocument: Sep-1998; PackageReference: TO-92A; Publisher: Altium Limited; Code_JEDEC: TO-92A; ComponentLink1Description: Manufacturer Link; ComponentLink1URL: http://www.fairchildsemi.com/; ComponentLink2Description: Datasheet; ComponentLink2URL: http://www.fairchildsemi.com/ds/2N%2F2N3904.pdf
footprint SOT-23 (普通贴片三极管)
pins: 1 B, 2 E, 3 C

## ST188
designator J?
反射式光电传感器; Published: 24-Mar-1999; LatestRevisionDate: 04-Mar-2005; LatestRevisionNote: Sch pins 3 & 4 Swapped.; DatasheetDocument: Nov-2003; PackageReference: DIP-4; Publisher: Altium Limited
footprint ST188 (反射光电传感器)
pins: 1 A "Anode", 2 K "Cathode", 3 E "Emitter", 4 C "Collector"

## ST2045
designator D?  (value not drawn)
二极管; Manufacturer: MDD; Add into BOM: yes; Diode Configuration: 独立式; Reverse Voltage (Vr): 45V; Average Rectified Current (Io): 20A; Forward Voltage (Vf@If): 500mV@20A; Reverse Leakage Current (Ir): 60uA@45V; Name: ST2045; Symbol: ST2045; Device: ST2045; LCSC Part Name: 45V 20A 500mV@20A; Supplier Part: C840773; Manufacturer Part: ST2045; Supplier Footprint: TO-277; JLCPCB Part Class: Extended Part; Datasheet: https://atta.szlcsc.com/upload/public/pdf/source/20200930/C840773_DFE751D219E3AD7B643EE6C9954C5CD5.pdf; Supplier: LCSC; Convert to PCB: yes
footprint TO-277_3P-L5.4-W4.0-LS6.5-BR
3D model TO-277_3P-L5.4-W4.0-H1.2-LS6.5-BR
pins: 1 A, 2 K, 3 A

## STC12C5202AD
designator U?
footprint STC12C5204AD
pins: 1 RST/VPP, 2 P3.0(RXD), 3 P3.1(TXD), 4 XTAL2, 5 XTAL1, 6 P3.2(~{INT0}), 7 P3.3(~{INT1}), 8 P3.4CLKOUT0/ECI/T0, 9 P3.5CLKOUT1/CCP1/T1, 10 GND, 11 CCP0/P3.7, 12 ADC0/P1.0, 13 ADC1/P1.1, 14 ADC2/EX_LVD/RST2/P1.2, 15 ADC3/P1.3, 16 ADC4/P1.4, 17 ADC5/P1.5, 18 ADC6/P1.6, 19 ADC7/P1.7, 20 VCC

## STM32F103C
designator U?
STM32单片机48引脚
footprint LQFP-48_M (Thin QFP, 48-Leads, Body 7x7mm, Pitch 0.5mm, IPC Low Density)
pins: 1 VBAT, 2 PC13-TAMPER-RTC, 3 PC14-OSC32_IN, 4 PC15-OSC32_OUT, 5 OSC_IN, 6 OSC_OUT, 7 NRST, 8 VSSA, 9 VDDA, 10 PA0/WKUP/ADC123_IN0/T2C1ETR/T5C1/T8ETR, 11 PA1/ADC123_IN1/T5C2/T2C2, 12 PA2/ADC123_IN2/USART2_Tx/T5C3/T2C3, 13 PA3/ADC123_IN3/USART2_Rx/T5C4/T2C4, 14 PA4/ADC123_IN4/DAC_OUT1/SPI1_NSS, 15 PA5/ADC123_IN5/DAC_OUT2/SPI1_SCK, 16 PA6/ADC123_IN6/SPI1_MISO/T8T1BKIN/T3C1, 17 PA7/ADC123_IN7/SPI1_MOSI/T8C1N/T3C2/T1C1N, 18 PB0/ADC123_IN8/T3C3/T8C2N/T1C2N, 19 PB1/ADC123_IN9/T3C4/T8C3N/T1C3N, 20 PB2/BOOT1, 21 PB10/USART3_Tx/I2C2_SCL/T2C3, 22 PB11/USART3_Rx/I2C2_SDA/T2C4, 23 VSS_1, 24 VDD_1, 25 PB12/I2S2_WS/T1BKIN/SPI2_NSS/I2C2_SMBA, 26 PB13/I2S2_CK/T1CH1N/SPI2_SCK, 27 PB14/T1CH2N/SPI2_MISO, 28 PB15/I2S2_SD/T1CH3N/SPI2_MOSI, 29 PA8/T1C1/MCO, 30 PA9/T1C2/USART1_Tx, 31 PA10/T1C3/USART1_Rx, 32 PA11/CAN_Rx/T1C4/USBDM, 33 PA12/CAN_Tx/T1ETR/USBDP, 34 PA13/JTMS/SWDIO, 35 VSS_2, 36 VDD_2, 37 PA14/JTCK/SWCLK, 38 PA15/JTDI/I2S3_WS/JTDI/T2C1ETR/SPI3_NSS, 39 PB3/JTDO/SPI3_SCK/I2S3_CK/T2C2/SPI1_SCK, 40 PB4/NJTRST/SPI3_MISO/T3C1/SPI1_MISO, 41 PB5/I2C1_SMBA/I2S3_SD/SPI3_MOSI/T3C2/SPI1_MOSI, 42 PB6/I2C1_SCL/T4C1/USART1_Tx, 43 PB7/I2C1_SDA/FSMC_NADV/USART1_Rx, 44 BOOT0, 45 PB8/SDIO_D4/I2C1_SCL/T4C3(7)/CAN_Rx, 46 PB9/SDIO_D5/I2C1_SDA/T4C4/CAN_Tx, 47 VSS_3, 48 VDD_3

## STM32F103C8T6
designator U??  (value not drawn)
单片机; Manufacturer: ST(意法半导体); Add into BOM: yes; CPU Core: ARM Cortex-M3; CPU Maximum Speed: 72MHz; Operating Voltage Range: 2V~3.6V; Program Storage Size: 64KB; Program Memory Type: FLASH; RAM Size: 20KB; GPIO Ports Number: 37; ADC (Bit): 12bit; Universal Serial Bus: 有; Peripheral/Function: 看门狗；DMA；看门狗；片载温度传感器; Name: STM32F103C8T6; Symbol: STM32F103C8T6; Device: STM32F103C8T6; LCSC Part Name: STM32F103C8T6 MSL=3; Supplier Part: C8734; Manufacturer Part: STM32F103C8T6; Supplier Footprint: LQFP-48(7x7); JLCPCB Part Class: Basic Part; Datasheet: https://atta.szlcsc.com/upload/public/pdf/source/20220812/8363ACEC51AD55ECEB84799464F7CB85.pdf; Supplier: LCSC; Convert to PCB: yes; EEPROM: -; DAC (Bit): -; PWM (Bit): -; Internal Comparator: -; communication protocol: -; Watchdog: 有; Real-Time Clock: -; Infrared Data Association: 有; Low-Voltage Detect: 有; CCP Capture/Compare: -; Secure Digital Input and Output: -; Direct Memory Access: 有; Internal Oscillator: 有; Operating Temperature Range: -40℃~+85℃
footprint LQFP-48_L7.0-W7.0-P0.50-LS9.0-BL
3D model LQFP-48_L7.0-W7.0-H1.4-LS9.0-P0.50
pins: 1 VBAT, 2 PC13-TAMPER-RTC, 3 PC14-OSC32_IN, 4 PC15-OSC32_OUT, 5 PD0-OSC_IN, 6 PD1-OSC_OUT, 7 NRST, 8 VSSA, 9 VDDA, 10 PA0-WKUP, 11 PA1, 12 PA2, 13 PA3, 14 PA4, 15 PA5, 16 PA6, 17 PA7, 18 PB0, 19 PB1, 20 PB2, 21 PB10, 22 PB11, 23 VSS_1, 24 VDD_1, 25 PB12, 26 PB13, 27 PB14, 28 PB15, 29 PA8, 30 PA9, 31 PA10, 32 PA11, 33 PA12, 34 PA13, 35 VSS_2, 36 VDD_2, 37 PA14, 38 PA15, 39 PB3, 40 PB4, 41 PB5, 42 PB6, 43 PB7, 44 BOOT0, 45 PB8, 46 PB9, 47 VSS_3, 48 VDD_3

## STM32F103C8T6_核心板
designator U?, comment STM32F103C8T6_最小系统
stm32最小系统
footprint STM32_MINI_Board
pins: 1 VB, 2 C13, 3 C14, 4 C15, 5 A0, 6 A1, 7 A2, 8 A3, 9 A4, 10 A5, 11 A6, 12 A7, 13 B0, 14 B1, 15 B10, 16 B11, 17 R, 18 3V3, 19 GND, 20 GND, 21 B12, 22 B13, 23 B14, 24 B15, 25 A8, 26 A9, 27 A10, 28 A11, 29 A12, 30 A15, 31 B3, 32 B4, 33 B5, 34 B6, 35 B7, 36 B8, 37 B9, 38 5V, 39 GND, 40 3V3

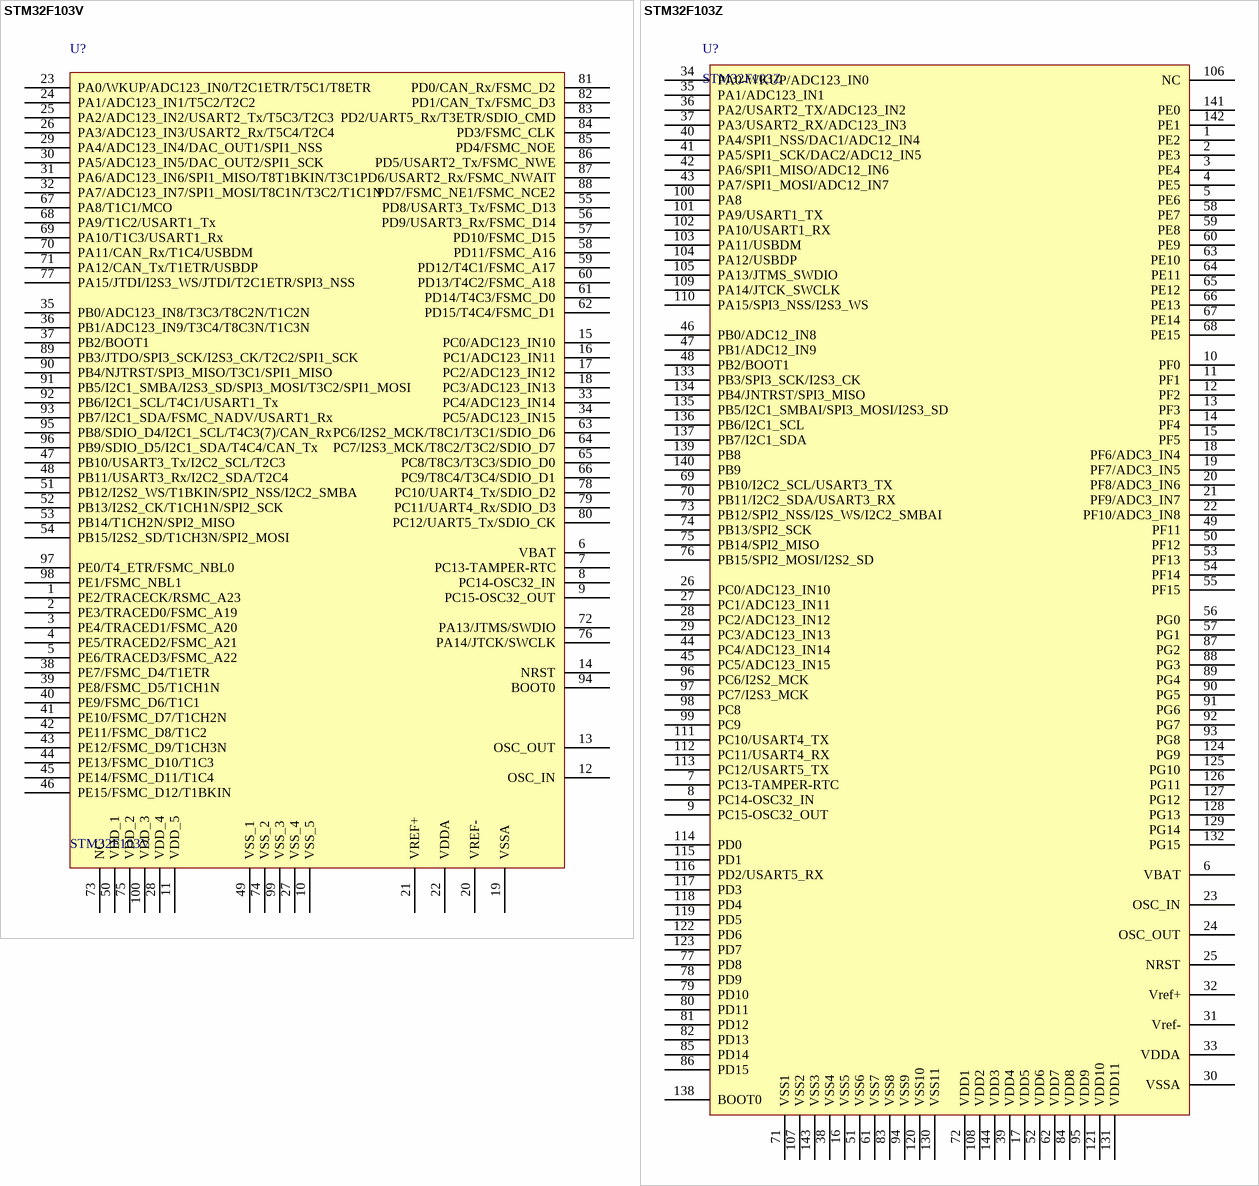
[diagram p8: symbols STM32F103V to STM32F103Z]

## STM32F103V
designator U?
STM32单片机100引脚
footprint LQFP-100_M (Thin QFP, 100)
pins: 1 PE2/TRACECK/RSMC_A23, 2 PE3/TRACED0/FSMC_A19, 3 PE4/TRACED1/FSMC_A20, 4 PE5/TRACED2/FSMC_A21, 5 PE6/TRACED3/FSMC_A22, 6 VBAT, 7 PC13-TAMPER-RTC, 8 PC14-OSC32_IN, 9 PC15-OSC32_OUT, 10 VSS_5, 11 VDD_5, 12 OSC_IN, 13 OSC_OUT, 14 NRST, 15 PC0/ADC123_IN10, 16 PC1/ADC123_IN11, 17 PC2/ADC123_IN12, 18 PC3/ADC123_IN13, 19 VSSA, 20 VREF-, 21 VREF+, 22 VDDA, 23 PA0/WKUP/ADC123_IN0/T2C1ETR/T5C1/T8ETR, 24 PA1/ADC123_IN1/T5C2/T2C2, 25 PA2/ADC123_IN2/USART2_Tx/T5C3/T2C3, 26 PA3/ADC123_IN3/USART2_Rx/T5C4/T2C4, 27 VSS_4, 28 VDD_4, 29 PA4/ADC123_IN4/DAC_OUT1/SPI1_NSS, 30 PA5/ADC123_IN5/DAC_OUT2/SPI1_SCK, 31 PA6/ADC123_IN6/SPI1_MISO/T8T1BKIN/T3C1, 32 PA7/ADC123_IN7/SPI1_MOSI/T8C1N/T3C2/T1C1N, 33 PC4/ADC123_IN14, 34 PC5/ADC123_IN15, 35 PB0/ADC123_IN8/T3C3/T8C2N/T1C2N, 36 PB1/ADC123_IN9/T3C4/T8C3N/T1C3N, 37 PB2/BOOT1, 38 PE7/FSMC_D4/T1ETR, 39 PE8/FSMC_D5/T1CH1N, 40 PE9/FSMC_D6/T1C1, 41 PE10/FSMC_D7/T1CH2N, 42 PE11/FSMC_D8/T1C2, 43 PE12/FSMC_D9/T1CH3N, 44 PE13/FSMC_D10/T1C3, 45 PE14/FSMC_D11/T1C4, 46 PE15/FSMC_D12/T1BKIN, 47 PB10/USART3_Tx/I2C2_SCL/T2C3, 48 PB11/USART3_Rx/I2C2_SDA/T2C4, 49 VSS_1, 50 VDD_1, 51 PB12/I2S2_WS/T1BKIN/SPI2_NSS/I2C2_SMBA, 52 PB13/I2S2_CK/T1CH1N/SPI2_SCK, 53 PB14/T1CH2N/SPI2_MISO, 54 PB15/I2S2_SD/T1CH3N/SPI2_MOSI, 55 PD8/USART3_Tx/FSMC_D13, 56 PD9/USART3_Rx/FSMC_D14, 57 PD10/FSMC_D15, 58 PD11/FSMC_A16, 59 PD12/T4C1/FSMC_A17, 60 PD13/T4C2/FSMC_A18, 61 PD14/T4C3/FSMC_D0, 62 PD15/T4C4/FSMC_D1, 63 PC6/I2S2_MCK/T8C1/T3C1/SDIO_D6, 64 PC7/I2S3_MCK/T8C2/T3C2/SDIO_D7, 65 PC8/T8C3/T3C3/SDIO_D0, 66 PC9/T8C4/T3C4/SDIO_D1, 67 PA8/T1C1/MCO, 68 PA9/T1C2/USART1_Tx, 69 PA10/T1C3/USART1_Rx, 70 PA11/CAN_Rx/T1C4/USBDM, 71 PA12/CAN_Tx/T1ETR/USBDP, 72 PA13/JTMS/SWDIO, 73 NC, 74 VSS_2, 75 VDD_2, 76 PA14/JTCK/SWCLK, 77 PA15/JTDI/I2S3_WS/JTDI/T2C1ETR/SPI3_NSS, 78 PC10/UART4_Tx/SDIO_D2, 79 PC11/UART4_Rx/SDIO_D3, 80 PC12/UART5_Tx/SDIO_CK, 81 PD0/CAN_Rx/FSMC_D2, 82 PD1/CAN_Tx/FSMC_D3, 83 PD2/UART5_Rx/T3ETR/SDIO_CMD, 84 PD3/FSMC_CLK, 85 PD4/FSMC_NOE, 86 PD5/USART2_Tx/FSMC_NWE, 87 PD6/USART2_Rx/FSMC_NWAIT, 88 PD7/FSMC_NE1/FSMC_NCE2, 89 PB3/JTDO/SPI3_SCK/I2S3_CK/T2C2/SPI1_SCK, 90 PB4/NJTRST/SPI3_MISO/T3C1/SPI1_MISO, 91 PB5/I2C1_SMBA/I2S3_SD/SPI3_MOSI/T3C2/SPI1_MOSI, 92 PB6/I2C1_SCL/T4C1/USART1_Tx, 93 PB7/I2C1_SDA/FSMC_NADV/USART1_Rx, 94 BOOT0, 95 PB8/SDIO_D4/I2C1_SCL/T4C3(7)/CAN_Rx, 96 PB9/SDIO_D5/I2C1_SDA/T4C4/CAN_Tx, 97 PE0/T4_ETR/FSMC_NBL0, 98 PE1/FSMC_NBL1, 99 VSS_3, 100 VDD_3

## STM32F103Z
designator U?
STM32单片机144引脚
footprint TQFP144_N (Thin QFP, 144-Leads, Body 20x20mm, Pitch 0.5mm, IPC Medium Density)
pins: 1 PE2, 2 PE3, 3 PE4, 4 PE5, 5 PE6, 6 VBAT, 7 PC13-TAMPER-RTC, 8 PC14-OSC32_IN, 9 PC15-OSC32_OUT, 10 PF0, 11 PF1, 12 PF2, 13 PF3, 14 PF4, 15 PF5, 16 VSS5, 17 VDD5, 18 PF6/ADC3_IN4, 19 PF7/ADC3_IN5, 20 PF8/ADC3_IN6, 21 PF9/ADC3_IN7, 22 PF10/ADC3_IN8, 23 OSC_IN, 24 OSC_OUT, 25 NRST, 26 PC0/ADC123_IN10, 27 PC1/ADC123_IN11, 28 PC2/ADC123_IN12, 29 PC3/ADC123_IN13, 30 VSSA, 31 Vref-, 32 Vref+, 33 VDDA, 34 PA0-WKUP/ADC123_IN0, 35 PA1/ADC123_IN1, 36 PA2/USART2_TX/ADC123_IN2, 37 PA3/USART2_RX/ADC123_IN3, 38 VSS4, 39 VDD4, 40 PA4/SPI1_NSS/DAC1/ADC12_IN4, 41 PA5/SPI1_SCK/DAC2/ADC12_IN5, 42 PA6/SPI1_MISO/ADC12_IN6, 43 PA7/SPI1_MOSI/ADC12_IN7, 44 PC4/ADC123_IN14, 45 PC5/ADC123_IN15, 46 PB0/ADC12_IN8, 47 PB1/ADC12_IN9, 48 PB2/BOOT1, 49 PF11, 50 PF12, 51 VSS6, 52 VDD6, 53 PF13, 54 PF14, 55 PF15, 56 PG0, 57 PG1, 58 PE7, 59 PE8, 60 PE9, 61 VSS7, 62 VDD7, 63 PE10, 64 PE11, 65 PE12, 66 PE13, 67 PE14, 68 PE15, 69 PB10/I2C2_SCL/USART3_TX, 70 PB11/I2C2_SDA/USART3_RX, 71 VSS1, 72 VDD1, 73 PB12/SPI2_NSS/I2S_WS/I2C2_SMBAI, 74 PB13/SPI2_SCK, 75 PB14/SPI2_MISO, 76 PB15/SPI2_MOSI/I2S2_SD, 77 PD8, 78 PD9, 79 PD10, 80 PD11, 81 PD12, 82 PD13, 83 VSS8, 84 VDD8, 85 PD14, 86 PD15, 87 PG2, 88 PG3, 89 PG4, 90 PG5, 91 PG6, 92 PG7, 93 PG8, 94 VSS9, 95 VDD9, 96 PC6/I2S2_MCK, 97 PC7/I2S3_MCK, 98 PC8, 99 PC9, 100 PA8, 101 PA9/USART1_TX, 102 PA10/USART1_RX, 103 PA11/USBDM, 104 PA12/USBDP, 105 PA13/JTMS_SWDIO, 106 NC, 107 VSS2, 108 VDD2, 109 PA14/JTCK_SWCLK, 110 PA15/SPI3_NSS/I2S3_WS, 111 PC10/USART4_TX, 112 PC11/USART4_RX, 113 PC12/USART5_TX, 114 PD0, 115 PD1, 116 PD2/USART5_RX, 117 PD3, 118 PD4, 119 PD5, 120 VSS10, 121 VDD10, 122 PD6, 123 PD7, 124 PG9, 125 PG10, 126 PG11, 127 PG12, 128 PG13, 129 PG14, 130 VSS11, 131 VDD11, 132 PG15, 133 PB3/SPI3_SCK/I2S3_CK, 134 PB4/JNTRST/SPI3_MISO, 135 PB5/I2C1_SMBAI/SPI3_MOSI/I2S3_SD, 136 PB6/I2C1_SCL, 137 PB7/I2C1_SDA, 138 BOOT0, 139 PB8, 140 PB9, 141 PE0, 142 PE1, 143 VSS3, 144 VDD3

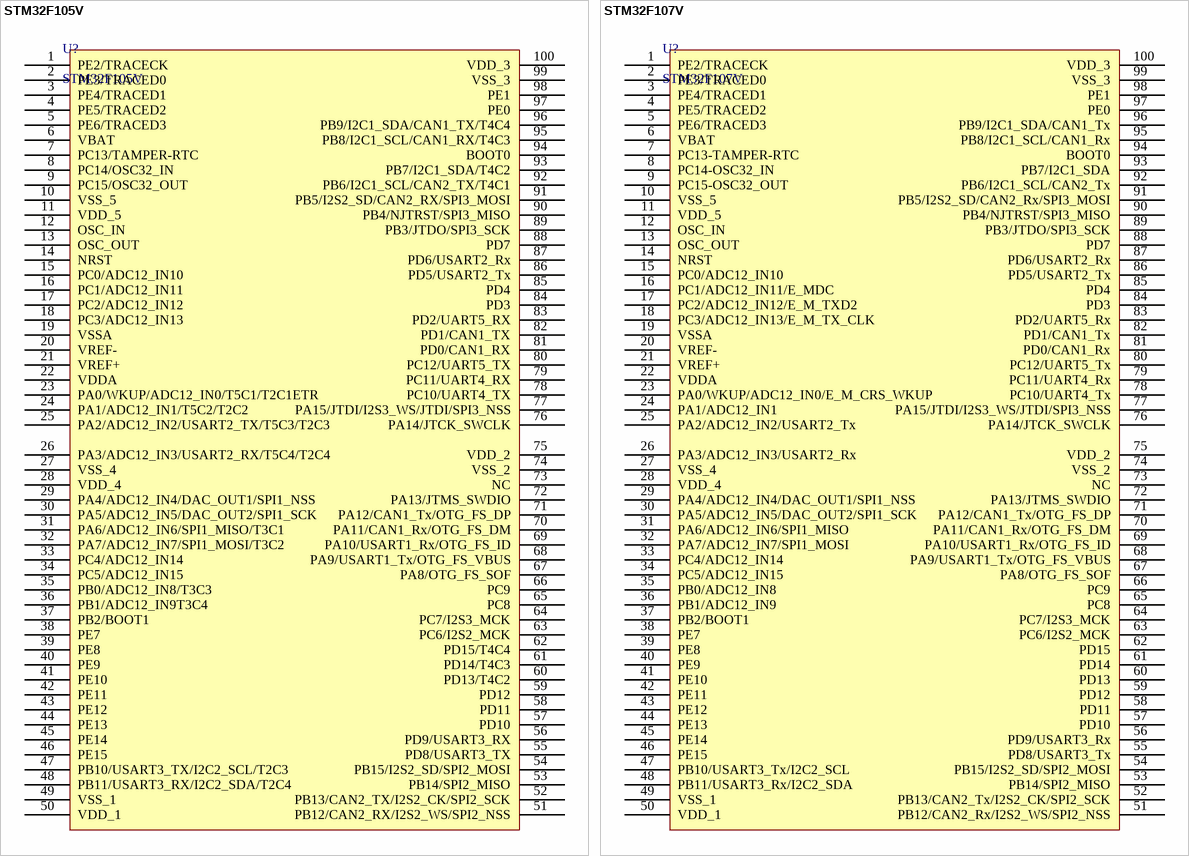
[diagram p9: symbols STM32F105V to STM32F107V]